# Altium integrated library ST Microcontroller 32-Bit.IntLib: 27 symbols (part 2 of 5)
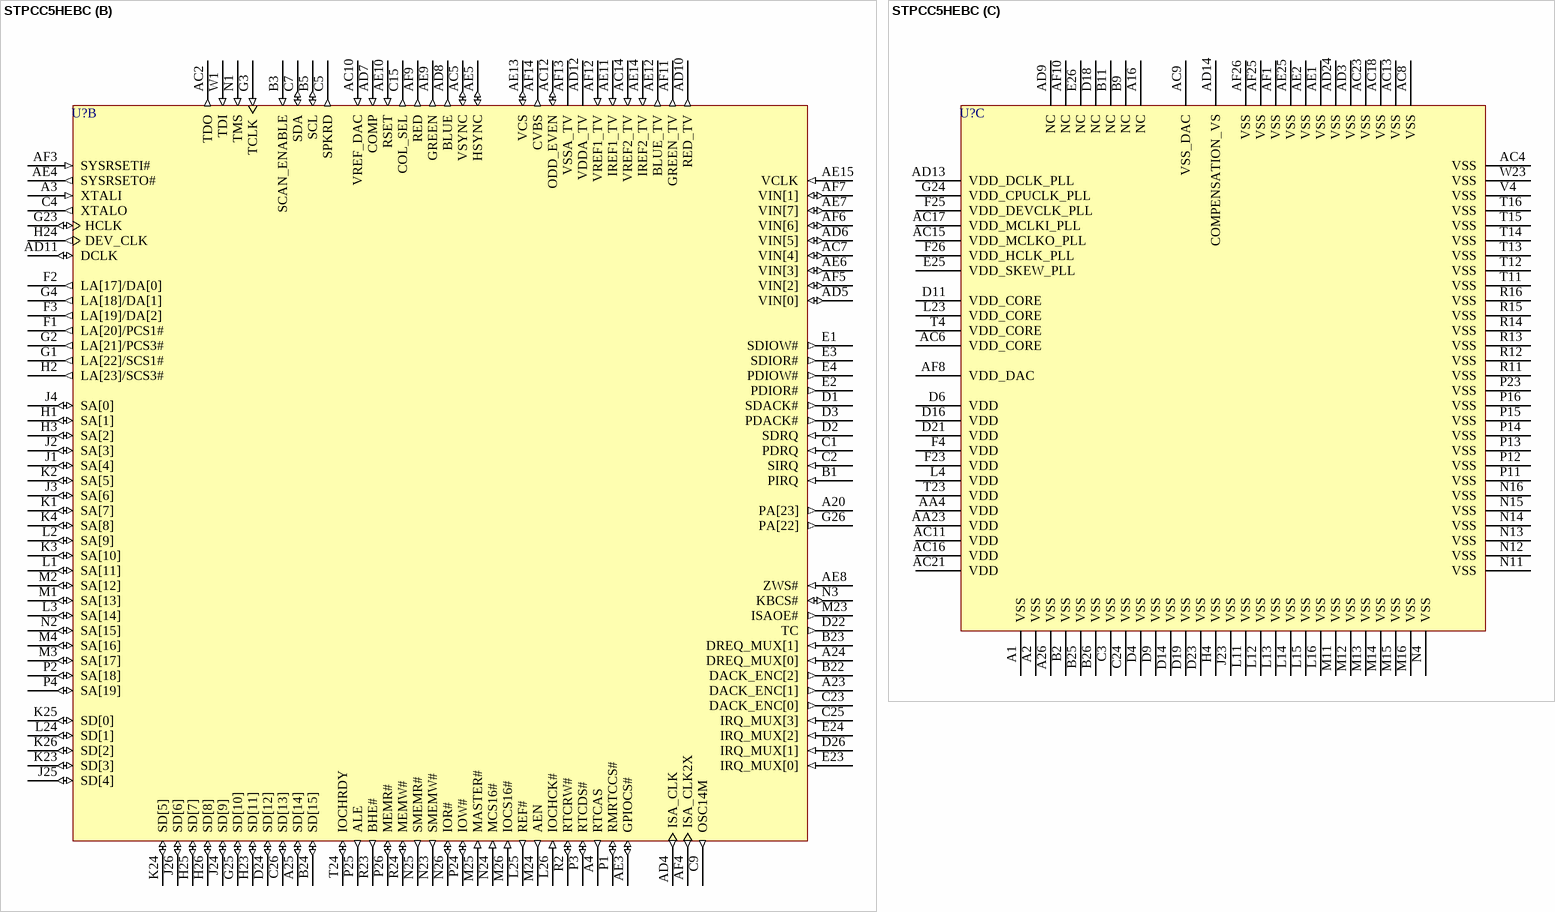
[diagram p64: symbol STPCC5HEBC]

## STPCC5HEBC
designator U?
X86 Core PC Compatible Information Appliance System-on-Chip, 133 MHz Core Speed, 388-Pin PBGA, Commercial; Note: The VDD_xxx_PLL pins and the VDD_CORE pins must be connected to the 2.5V power supply.; Note: They must not be connected to the 3.3 V supply.; Published: 26-May-2004; DatasheetDocument: Release 1.5, 29-Jan-2002; PackageDocument: Oct-2000; PackageReference: PBGA388; Publisher: Altium Limited
footprint PBGA388 (BGA, Plastic; 388 Balls; Body 35 x 35 mm; Pitch 1.27 mm)
part A pins: A5 PCI_INT#[0] (in), A6 LOCK# (in), A7 STOP# (io), A8 FRAME# (io), A9 CBE[2] (io), A10 AD[31] (io), A11 AD[27] (io), A12 AD[25] (io), A13 AD[21] (io), A14 AD[18] (io), A15 AD[14] (io), A17 AD[9] (io), A18 AD[6] (io), A19 AD[3] (io), A21 PCI_REQ#[2] (in), A22 PCI_GNT#[1] (out), AA1 MD[20] (io), AA2 MD[18] (io), AA3 MD[24] (io), AA24 MD[44] (io), AA25 MD[42] (io), AA26 MD[45] (io), AB1 MD[23] (io), AB2 MD[22] (io), AB3 MD[27] (io), AB4 MD[25] (io), AB23 MCLKO (out), AB24 MD[40] (io), AB25 MD[39] (io), AB26 MD[41] (io), AC1 MD[26] (io), AC3 MD[29] (io), AC19 MA[11]/BA[0] (out), AC20 CAS#[1] (out), AC22 MWE# (out), AC24 MD[37] (io), AC25 MD[36] (io), AC26 MD[38] (io), AD1 MD[30] (io), AD2 MD[28] (io), AD15 MA[1] (out), AD16 MA[4] (out), AD17 MA[7] (out), AD18 DQM#[7] (out), AD19 DQM#[1] (out), AD20 DQM#[3] (out), AD21 CS#[1] (out), AD22 RAS#[1] (out), AD23 CS#[3]/MA[12]/BA[1] (out), AD25 MD[34] (io), AD26 MD[35] (io), AE16 MA[0] (out), AE17 MA[3] (out), AE18 MA[6] (out), AE19 MA[9] (out), AE20 MA[10] (out), AE21 CAS#[0] (out), AE22 DQM#[4] (out), AE23 DQM#[5] (out), AE24 CS#[2]/MA[11] (out), AE26 MD[33] (io), AF2 MD[31] (io), AF15 MCLKI (in), AF16 MA[2] (out), AF17 MA[5] (out), AF18 MA[8] (out), AF19 DQM#[6] (out), AF20 DQM#[0] (out), AF21 DQM#[2] (out), AF22 CS#[0] (out), AF23 RAS#[0] (out), AF24 MD[32] (io), B4 PCI_INT#[2] (in), B6 PAR (io), B7 TRDY# (io), B8 CBE[3] (io), B10 AD[29] (io), B12 AD[23] (io), B13 AD[19] (io), B14 AD[16] (io), B15 AD[13] (io), B16 AD[11] (io), B17 AD[7] (io), B18 AD[5] (io), B19 AD[2] (io), B20 AD[0] (io), B21 PCI_GNT#[2] (out), C6 PCI_INT#[1] (in), C8 DEVSEL# (io), C10 CBE[1] (io), C11 AD[30] (io), C12 AD[26] (io), C13 AD[24] (io), C14 AD[22] (io), C16 AD[15] (io), C17 AD[12] (io), C18 AD[8] (io), C19 AD[4] (io), C20 AD[1] (io), C21 PCI_REQ#[1] (in), C22 PCI_GNT#[0] (out), D5 PCI_INT#[3] (in), D7 SERR# (out), D8 IRDY# (io), D10 CBE[0] (io), D12 AD[28] (io), D13 AD[20] (io), D15 AD[17] (io), D17 AD[10] (io), D20 PCI_REQ#[0] (in), D25 PCI_CLKO (out), F24 PCI_CLKI (in), R1 MD[0] (io), R3 MD[2] (io), R4 MD[4] (io), R25 MD[62] (io), R26 MD[63] (io), T1 MD[3] (io), T2 MD[1] (io), T3 MD[6] (io), T25 MD[59] (io), T26 MD[61] (io), U1 MD[7] (io), U2 MD[5] (io), U3 MD[10] (io), U4 MD[8] (io), U23 MD[58] (io), U24 MD[60] (io), U25 MD[55] (io), U26 MD[57] (io), V1 MD[11] (io), V2 MD[9] (io), V3 MD[13] (io), V23 MD[50] (io), V24 MD[56] (io), V25 MD[53] (io), V26 MD[54] (io), W2 MD[12] (io), W3 MD[17] (io), W4 MD[15] (io), W24 MD[52] (io), W25 MD[49] (io), W26 MD[51] (io), Y1 MD[16] (io), Y2 MD[14] (io), Y3 MD[21] (io), Y4 MD[19] (io), Y23 MD[43] (io), Y24 MD[48] (io), Y25 MD[46] (io), Y26 MD[47] (io)
part B pins: A3 XTALI (in), A4 RTCAS (out), A20 PA[23] (out), A23 DACK_ENC[1] (out), A24 DREQ_MUX[0] (in), A25 SD[14] (io), AC2 TDO (out), AC5 VSYNC (io), AC7 VIN[4] (io), AC10 VREF_DAC (in), AC12 ODD_EVEN (io), AC14 VREF2_TV (in), AD4 ISA_CLK (out), AD5 VIN[0] (io), AD6 VIN[5] (io), AD7 COMP (in), AD8 BLUE (out), AD10 RED_TV (out), AD11 DCLK (io), AD12 VDDA_TV (power), AE3 GPIOCS# (io), AE4 SYSRSETO# (out), AE5 HSYNC (io), AE6 VIN[3] (io), AE7 VIN[7] (io), AE8 ZWS# (in), AE9 GREEN (out), AE10 RSET (in), AE11 IREF1_TV (in), AE12 BLUE_TV (out), AE13 VCS (io), AE14 IREF2_TV (in), AE15 VCLK (in), AF3 SYSRSETI# (in), AF4 ISA_CLK2X (out), AF5 VIN[2] (io), AF6 VIN[6] (io), AF7 VIN[1] (io), AF9 RED (out), AF11 GREEN_TV (out), AF12 VREF1_TV (in), AF13 VSSA_TV (power), AF14 CVBS (out), B1 PIRQ (in), B3 SCAN_ENABLE (in), B5 SCL (io), B22 DACK_ENC[2] (out), B23 DREQ_MUX[1] (in), B24 SD[15] (io), C1 PDRQ (in), C2 SIRQ (in), C4 XTALO (out), C5 SPKRD (out), C7 SDA (io), C9 OSC14M (out), C15 COL_SEL (out), C23 DACK_ENC[0] (out), C25 IRQ_MUX[3] (in), C26 SD[13] (io), D1 SDACK# (out), D2 SDRQ (in), D3 PDACK# (out), D22 TC (out), D24 SD[12] (io), D26 IRQ_MUX[1] (in), E1 SDIOW# (out), E2 PDIOR# (out), E3 SDIOR# (out), E4 PDIOW# (out), E23 IRQ_MUX[0] (in), E24 IRQ_MUX[2] (in), F1 LA[20]/PCS1# (out), F2 LA[17]/DA[0] (out), F3 LA[19]/DA[2] (out), G1 LA[22]/SCS1# (out), G2 LA[21]/PCS3# (out), G3 TCLK (in), G4 LA[18]/DA[1] (out), G23 HCLK (io), G25 SD[10] (io), G26 PA[22] (out), H1 SA[1] (io), H2 LA[23]/SCS3# (out), H3 SA[2] (io), H23 SD[11] (io), H24 DEV_CLK (out), H25 SD[7] (io), H26 SD[8] (io), J1 SA[4] (io), J2 SA[3] (io), J3 SA[6] (io), J4 SA[0] (io), J24 SD[9] (io), J25 SD[4] (io), J26 SD[6] (io), K1 SA[7] (io), K2 SA[5] (io), K3 SA[10] (io), K4 SA[8] (io), K23 SD[3] (io), K24 SD[5] (io), K25 SD[0] (io), K26 SD[2] (io), L1 SA[11] (io), L2 SA[9] (io), L3 SA[14] (io), L24 SD[1] (io), L25 REF# (out), L26 IOCHCK# (in), M1 SA[13] (io), M2 SA[12] (io), M3 SA[17] (io), M4 SA[16] (io), M23 ISAOE# (out), M24 AEN (out), M25 MASTER# (in), M26 IOCS16# (in), N1 TMS (in), N2 SA[15] (io), N3 KBCS# (io), N23 SMEMW# (out), N24 MCS16# (in), N25 SMEMR# (out), N26 IOR# (io), P1 RMRTCCS# (io), P2 SA[18] (io), P3 RTCDS# (io), P4 SA[19] (io), P24 IOW# (io), P25 ALE (out), P26 MEMR# (io), R2 RTCRW# (io), R23 BHE# (out), R24 MEMW# (io), T24 IOCHRDY (io), W1 TDI (in)
part C pins: A1 VSS (power), A2 VSS (power), A16 NC, A26 VSS (power), AA4 VDD (power), AA23 VDD (power), AC4 VSS (power), AC6 VDD_CORE (power), AC8 VSS (power), AC9 VSS_DAC (power), AC11 VDD (power), AC13 VSS (power), AC15 VDD_MCLKO_PLL (power), AC16 VDD (power), AC17 VDD_MCLKI_PLL (power), AC18 VSS (power), AC21 VDD (power), AC23 VSS (power), AD3 VSS (power), AD9 NC, AD13 VDD_DCLK_PLL (power), AD14 COMPENSATION_VS (power), AD24 VSS (power), AE1 VSS (power), AE2 VSS (power), AE25 VSS (power), AF1 VSS (power), AF8 VDD_DAC (power), AF10 NC, AF25 VSS (power), AF26 VSS (power), B2 VSS (power), B9 NC, B11 NC, B25 VSS (power), B26 VSS (power), C3 VSS (power), C24 VSS (power), D4 VSS (power), D6 VDD (power), D9 VSS (power), D11 VDD_CORE (power), D14 VSS (power), D16 VDD (power), D18 NC, D19 VSS (power), D21 VDD (power), D23 VSS (power), E25 VDD_SKEW_PLL (power), E26 NC, F4 VDD (power), F23 VDD (power), F25 VDD_DEVCLK_PLL (power), F26 VDD_HCLK_PLL (power), G24 VDD_CPUCLK_PLL (power), H4 VSS (power), J23 VSS (power), L4 VDD (power), L11 VSS (power), L12 VSS (power), L13 VSS (power), L14 VSS (power), L15 VSS (power), L16 VSS (power), L23 VDD_CORE (power), M11 VSS (power), M12 VSS (power), M13 VSS (power), M14 VSS (power), M15 VSS (power), M16 VSS (power), N4 VSS (power), N11 VSS (power), N12 VSS (power), N13 VSS (power), N14 VSS (power), N15 VSS (power), N16 VSS (power), P11 VSS (power), P12 VSS (power), P13 VSS (power), P14 VSS (power), P15 VSS (power), P16 VSS (power), P23 VSS (power), R11 VSS (power), R12 VSS (power), R13 VSS (power), R14 VSS (power), R15 VSS (power), R16 VSS (power), T4 VDD_CORE (power), T11 VSS (power), T12 VSS (power), T13 VSS (power), T14 VSS (power), T15 VSS (power), T16 VSS (power), T23 VDD (power), V4 VSS (power), W23 VSS (power)

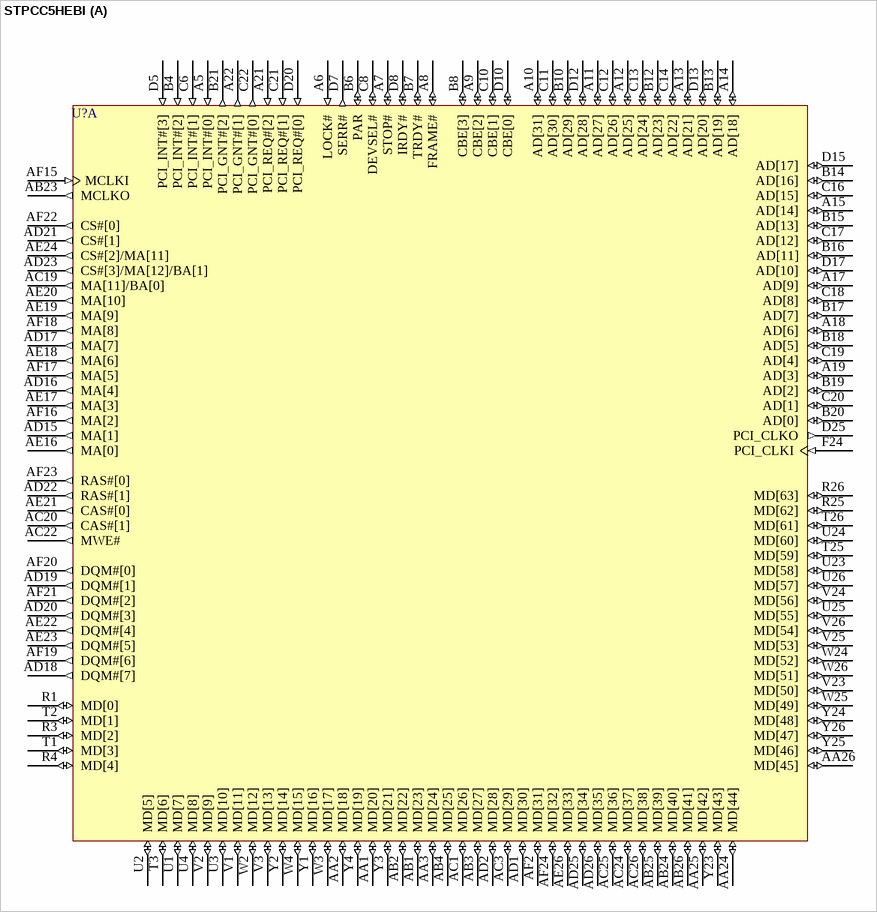
[diagram p14: symbol STPCC5HEBI]

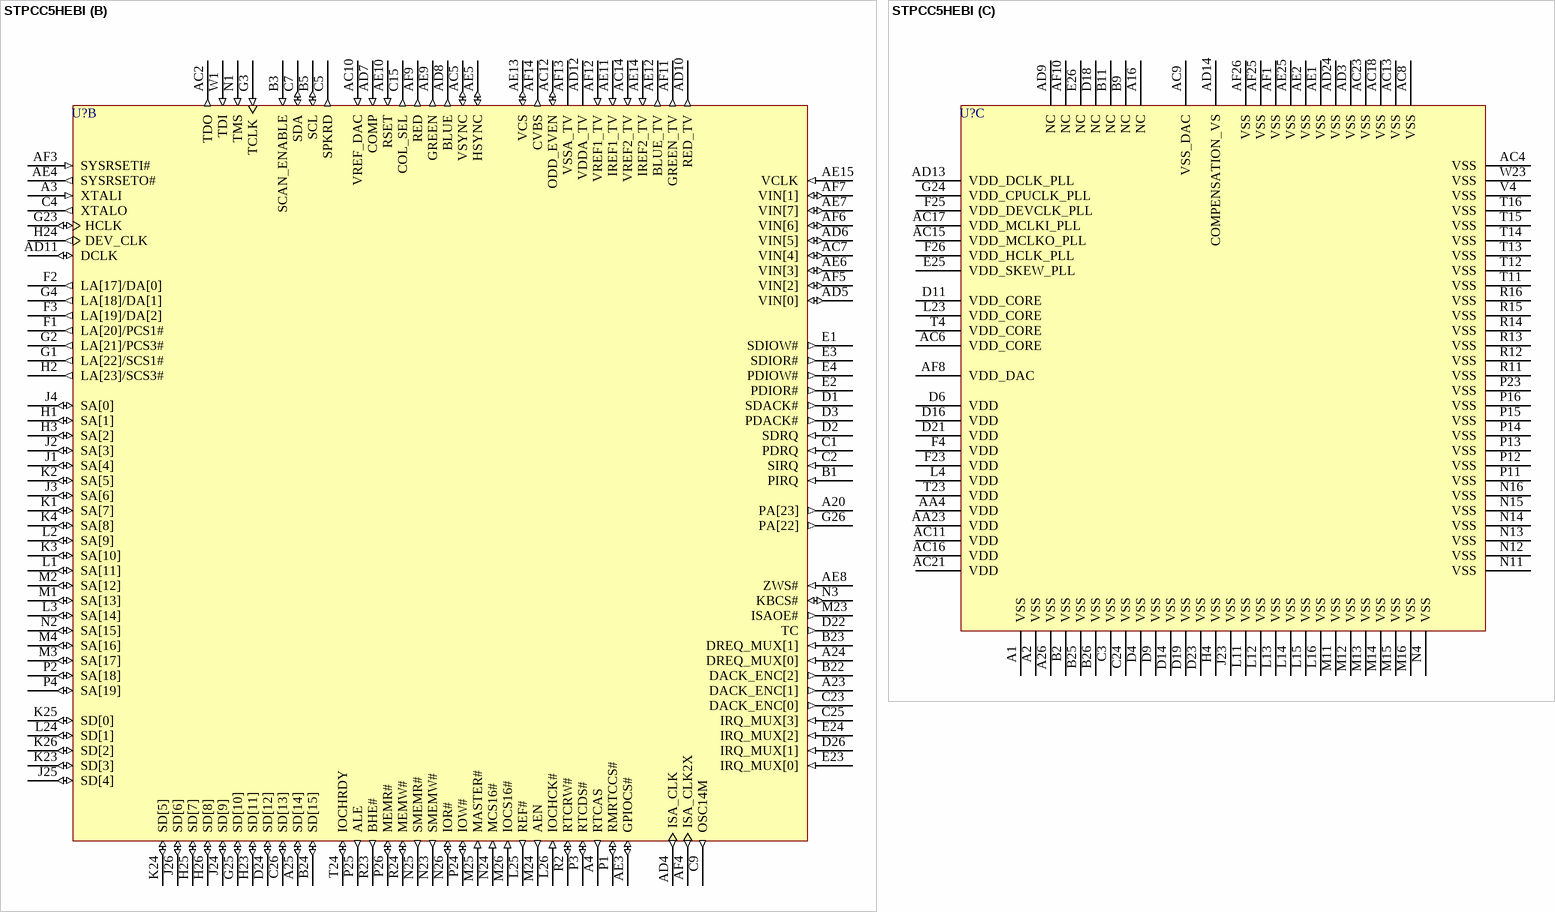
[diagram p15: symbol STPCC5HEBI]

## STPCC5HEBI
designator U?
X86 Core PC Compatible Information Appliance System-on-Chip, 133 MHz Core Speed, 388-Pin PBGA, Industrial; Note: The VDD_xxx_PLL pins and the VDD_CORE pins must be connected to the 2.5V power supply.; Note: They must not be connected to the 3.3 V supply.; Published: 26-May-2004; DatasheetDocument: Release 1.5, 29-Jan-2002; PackageDocument: Oct-2000; PackageReference: PBGA388; Publisher: Altium Limited
footprint PBGA388 (BGA, Plastic; 388 Balls; Body 35 x 35 mm; Pitch 1.27 mm)
part A pins: A5 PCI_INT#[0] (in), A6 LOCK# (in), A7 STOP# (io), A8 FRAME# (io), A9 CBE[2] (io), A10 AD[31] (io), A11 AD[27] (io), A12 AD[25] (io), A13 AD[21] (io), A14 AD[18] (io), A15 AD[14] (io), A17 AD[9] (io), A18 AD[6] (io), A19 AD[3] (io), A21 PCI_REQ#[2] (in), A22 PCI_GNT#[1] (out), AA1 MD[20] (io), AA2 MD[18] (io), AA3 MD[24] (io), AA24 MD[44] (io), AA25 MD[42] (io), AA26 MD[45] (io), AB1 MD[23] (io), AB2 MD[22] (io), AB3 MD[27] (io), AB4 MD[25] (io), AB23 MCLKO (out), AB24 MD[40] (io), AB25 MD[39] (io), AB26 MD[41] (io), AC1 MD[26] (io), AC3 MD[29] (io), AC19 MA[11]/BA[0] (out), AC20 CAS#[1] (out), AC22 MWE# (out), AC24 MD[37] (io), AC25 MD[36] (io), AC26 MD[38] (io), AD1 MD[30] (io), AD2 MD[28] (io), AD15 MA[1] (out), AD16 MA[4] (out), AD17 MA[7] (out), AD18 DQM#[7] (out), AD19 DQM#[1] (out), AD20 DQM#[3] (out), AD21 CS#[1] (out), AD22 RAS#[1] (out), AD23 CS#[3]/MA[12]/BA[1] (out), AD25 MD[34] (io), AD26 MD[35] (io), AE16 MA[0] (out), AE17 MA[3] (out), AE18 MA[6] (out), AE19 MA[9] (out), AE20 MA[10] (out), AE21 CAS#[0] (out), AE22 DQM#[4] (out), AE23 DQM#[5] (out), AE24 CS#[2]/MA[11] (out), AE26 MD[33] (io), AF2 MD[31] (io), AF15 MCLKI (in), AF16 MA[2] (out), AF17 MA[5] (out), AF18 MA[8] (out), AF19 DQM#[6] (out), AF20 DQM#[0] (out), AF21 DQM#[2] (out), AF22 CS#[0] (out), AF23 RAS#[0] (out), AF24 MD[32] (io), B4 PCI_INT#[2] (in), B6 PAR (io), B7 TRDY# (io), B8 CBE[3] (io), B10 AD[29] (io), B12 AD[23] (io), B13 AD[19] (io), B14 AD[16] (io), B15 AD[13] (io), B16 AD[11] (io), B17 AD[7] (io), B18 AD[5] (io), B19 AD[2] (io), B20 AD[0] (io), B21 PCI_GNT#[2] (out), C6 PCI_INT#[1] (in), C8 DEVSEL# (io), C10 CBE[1] (io), C11 AD[30] (io), C12 AD[26] (io), C13 AD[24] (io), C14 AD[22] (io), C16 AD[15] (io), C17 AD[12] (io), C18 AD[8] (io), C19 AD[4] (io), C20 AD[1] (io), C21 PCI_REQ#[1] (in), C22 PCI_GNT#[0] (out), D5 PCI_INT#[3] (in), D7 SERR# (out), D8 IRDY# (io), D10 CBE[0] (io), D12 AD[28] (io), D13 AD[20] (io), D15 AD[17] (io), D17 AD[10] (io), D20 PCI_REQ#[0] (in), D25 PCI_CLKO (out), F24 PCI_CLKI (in), R1 MD[0] (io), R3 MD[2] (io), R4 MD[4] (io), R25 MD[62] (io), R26 MD[63] (io), T1 MD[3] (io), T2 MD[1] (io), T3 MD[6] (io), T25 MD[59] (io), T26 MD[61] (io), U1 MD[7] (io), U2 MD[5] (io), U3 MD[10] (io), U4 MD[8] (io), U23 MD[58] (io), U24 MD[60] (io), U25 MD[55] (io), U26 MD[57] (io), V1 MD[11] (io), V2 MD[9] (io), V3 MD[13] (io), V23 MD[50] (io), V24 MD[56] (io), V25 MD[53] (io), V26 MD[54] (io), W2 MD[12] (io), W3 MD[17] (io), W4 MD[15] (io), W24 MD[52] (io), W25 MD[49] (io), W26 MD[51] (io), Y1 MD[16] (io), Y2 MD[14] (io), Y3 MD[21] (io), Y4 MD[19] (io), Y23 MD[43] (io), Y24 MD[48] (io), Y25 MD[46] (io), Y26 MD[47] (io)
part B pins: A3 XTALI (in), A4 RTCAS (out), A20 PA[23] (out), A23 DACK_ENC[1] (out), A24 DREQ_MUX[0] (in), A25 SD[14] (io), AC2 TDO (out), AC5 VSYNC (io), AC7 VIN[4] (io), AC10 VREF_DAC (in), AC12 ODD_EVEN (io), AC14 VREF2_TV (in), AD4 ISA_CLK (out), AD5 VIN[0] (io), AD6 VIN[5] (io), AD7 COMP (in), AD8 BLUE (out), AD10 RED_TV (out), AD11 DCLK (io), AD12 VDDA_TV (power), AE3 GPIOCS# (io), AE4 SYSRSETO# (out), AE5 HSYNC (io), AE6 VIN[3] (io), AE7 VIN[7] (io), AE8 ZWS# (in), AE9 GREEN (out), AE10 RSET (in), AE11 IREF1_TV (in), AE12 BLUE_TV (out), AE13 VCS (io), AE14 IREF2_TV (in), AE15 VCLK (in), AF3 SYSRSETI# (in), AF4 ISA_CLK2X (out), AF5 VIN[2] (io), AF6 VIN[6] (io), AF7 VIN[1] (io), AF9 RED (out), AF11 GREEN_TV (out), AF12 VREF1_TV (in), AF13 VSSA_TV (power), AF14 CVBS (out), B1 PIRQ (in), B3 SCAN_ENABLE (in), B5 SCL (io), B22 DACK_ENC[2] (out), B23 DREQ_MUX[1] (in), B24 SD[15] (io), C1 PDRQ (in), C2 SIRQ (in), C4 XTALO (out), C5 SPKRD (out), C7 SDA (io), C9 OSC14M (out), C15 COL_SEL (out), C23 DACK_ENC[0] (out), C25 IRQ_MUX[3] (in), C26 SD[13] (io), D1 SDACK# (out), D2 SDRQ (in), D3 PDACK# (out), D22 TC (out), D24 SD[12] (io), D26 IRQ_MUX[1] (in), E1 SDIOW# (out), E2 PDIOR# (out), E3 SDIOR# (out), E4 PDIOW# (out), E23 IRQ_MUX[0] (in), E24 IRQ_MUX[2] (in), F1 LA[20]/PCS1# (out), F2 LA[17]/DA[0] (out), F3 LA[19]/DA[2] (out), G1 LA[22]/SCS1# (out), G2 LA[21]/PCS3# (out), G3 TCLK (in), G4 LA[18]/DA[1] (out), G23 HCLK (io), G25 SD[10] (io), G26 PA[22] (out), H1 SA[1] (io), H2 LA[23]/SCS3# (out), H3 SA[2] (io), H23 SD[11] (io), H24 DEV_CLK (out), H25 SD[7] (io), H26 SD[8] (io), J1 SA[4] (io), J2 SA[3] (io), J3 SA[6] (io), J4 SA[0] (io), J24 SD[9] (io), J25 SD[4] (io), J26 SD[6] (io), K1 SA[7] (io), K2 SA[5] (io), K3 SA[10] (io), K4 SA[8] (io), K23 SD[3] (io), K24 SD[5] (io), K25 SD[0] (io), K26 SD[2] (io), L1 SA[11] (io), L2 SA[9] (io), L3 SA[14] (io), L24 SD[1] (io), L25 REF# (out), L26 IOCHCK# (in), M1 SA[13] (io), M2 SA[12] (io), M3 SA[17] (io), M4 SA[16] (io), M23 ISAOE# (out), M24 AEN (out), M25 MASTER# (in), M26 IOCS16# (in), N1 TMS (in), N2 SA[15] (io), N3 KBCS# (io), N23 SMEMW# (out), N24 MCS16# (in), N25 SMEMR# (out), N26 IOR# (io), P1 RMRTCCS# (io), P2 SA[18] (io), P3 RTCDS# (io), P4 SA[19] (io), P24 IOW# (io), P25 ALE (out), P26 MEMR# (io), R2 RTCRW# (io), R23 BHE# (out), R24 MEMW# (io), T24 IOCHRDY (io), W1 TDI (in)
part C pins: A1 VSS (power), A2 VSS (power), A16 NC, A26 VSS (power), AA4 VDD (power), AA23 VDD (power), AC4 VSS (power), AC6 VDD_CORE (power), AC8 VSS (power), AC9 VSS_DAC (power), AC11 VDD (power), AC13 VSS (power), AC15 VDD_MCLKO_PLL (power), AC16 VDD (power), AC17 VDD_MCLKI_PLL (power), AC18 VSS (power), AC21 VDD (power), AC23 VSS (power), AD3 VSS (power), AD9 NC, AD13 VDD_DCLK_PLL (power), AD14 COMPENSATION_VS (power), AD24 VSS (power), AE1 VSS (power), AE2 VSS (power), AE25 VSS (power), AF1 VSS (power), AF8 VDD_DAC (power), AF10 NC, AF25 VSS (power), AF26 VSS (power), B2 VSS (power), B9 NC, B11 NC, B25 VSS (power), B26 VSS (power), C3 VSS (power), C24 VSS (power), D4 VSS (power), D6 VDD (power), D9 VSS (power), D11 VDD_CORE (power), D14 VSS (power), D16 VDD (power), D18 NC, D19 VSS (power), D21 VDD (power), D23 VSS (power), E25 VDD_SKEW_PLL (power), E26 NC, F4 VDD (power), F23 VDD (power), F25 VDD_DEVCLK_PLL (power), F26 VDD_HCLK_PLL (power), G24 VDD_CPUCLK_PLL (power), H4 VSS (power), J23 VSS (power), L4 VDD (power), L11 VSS (power), L12 VSS (power), L13 VSS (power), L14 VSS (power), L15 VSS (power), L16 VSS (power), L23 VDD_CORE (power), M11 VSS (power), M12 VSS (power), M13 VSS (power), M14 VSS (power), M15 VSS (power), M16 VSS (power), N4 VSS (power), N11 VSS (power), N12 VSS (power), N13 VSS (power), N14 VSS (power), N15 VSS (power), N16 VSS (power), P11 VSS (power), P12 VSS (power), P13 VSS (power), P14 VSS (power), P15 VSS (power), P16 VSS (power), P23 VSS (power), R11 VSS (power), R12 VSS (power), R13 VSS (power), R14 VSS (power), R15 VSS (power), R16 VSS (power), T4 VDD_CORE (power), T11 VSS (power), T12 VSS (power), T13 VSS (power), T14 VSS (power), T15 VSS (power), T16 VSS (power), T23 VDD (power), V4 VSS (power), W23 VSS (power)

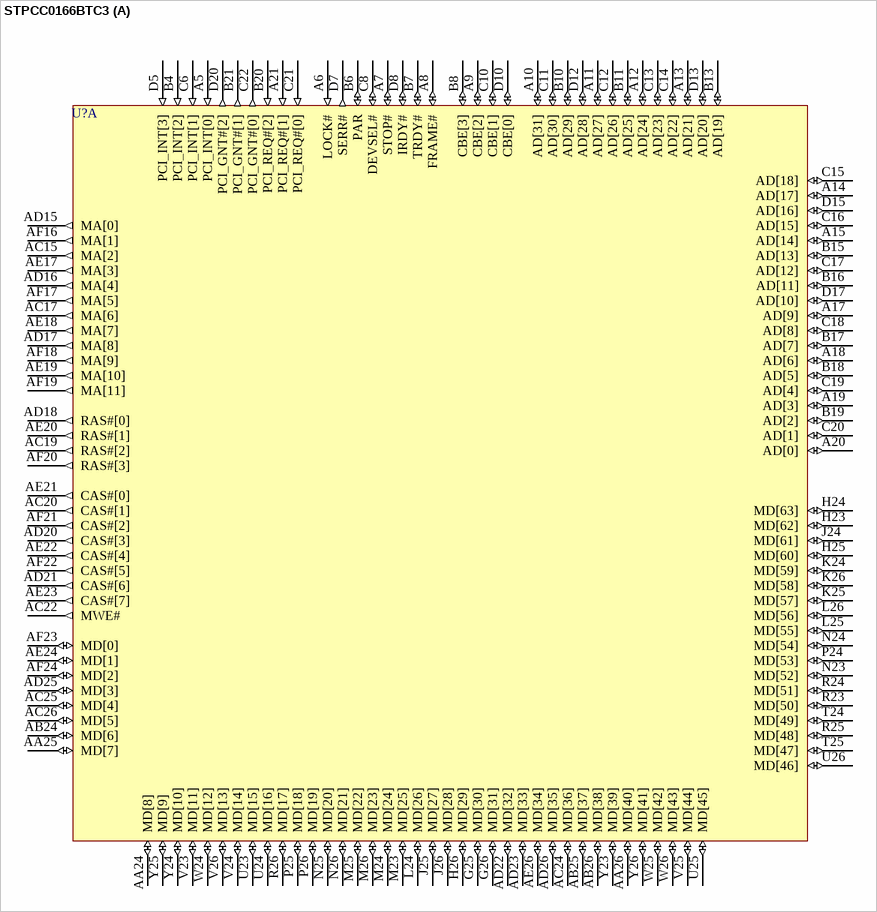
[diagram p16: symbol STPCC0166BTC3]

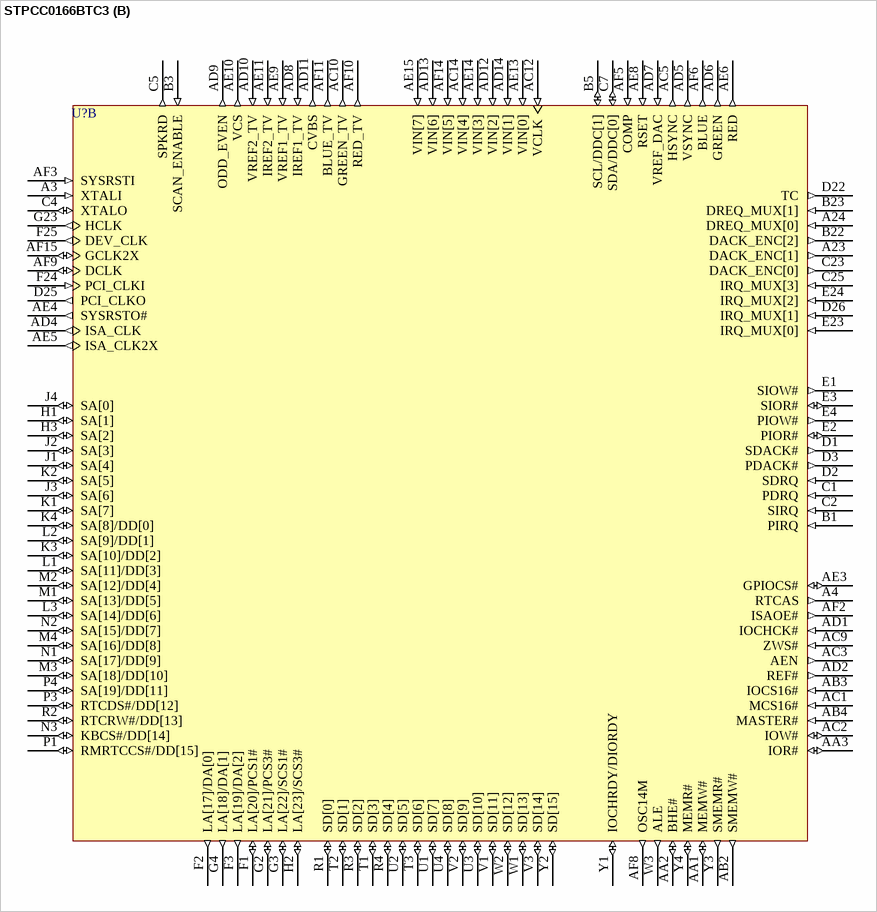
[diagram p17: symbol STPCC0166BTC3]

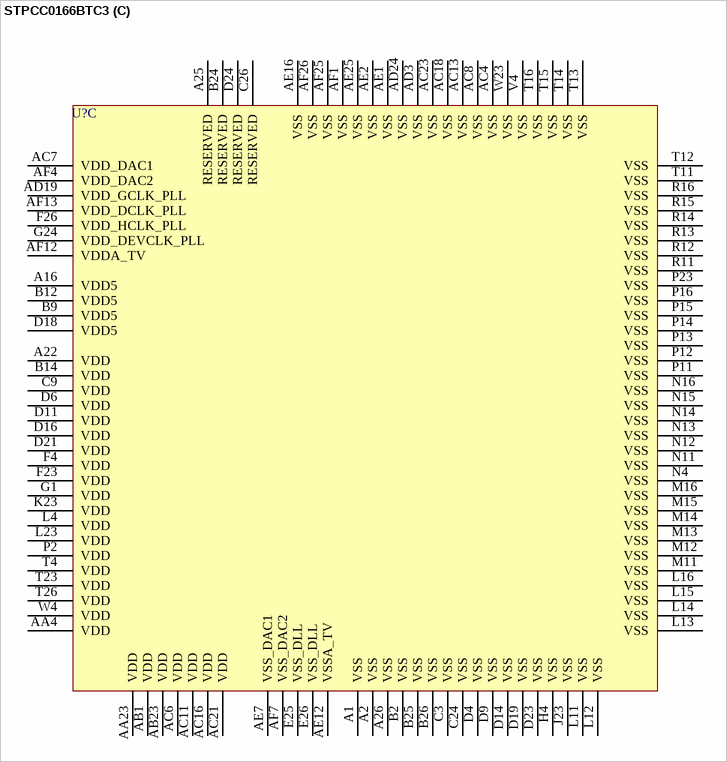
[diagram p18: symbol STPCC0166BTC3]

## STPCC0166BTC3
designator U?
STPCC01 PC Compatible Embedded Microprocessor, 66 MHz Core Speed, 388-Pin PBGA, Commercial; Published: 26-May-2004; DatasheetDocument: Issue 2.4, 8-Nov-2001; PackageDocument: Oct-2000; PackageReference: PBGA388; Publisher: Altium Limited
footprint PBGA388 (BGA, Plastic; 388 Balls; Body 35 x 35 mm; Pitch 1.27 mm)
part A pins: A5 PCI_INT[0] (in), A6 LOCK# (in), A7 STOP# (io), A8 FRAME# (io), A9 CBE[2] (io), A10 AD[31] (io), A11 AD[27] (io), A12 AD[24] (io), A13 AD[21] (io), A14 AD[17] (io), A15 AD[14] (io), A17 AD[9] (io), A18 AD[6] (io), A19 AD[3] (io), A20 AD[0] (io), A21 PCI_REQ#[1] (in), AA24 MD[8] (io), AA25 MD[7] (io), AA26 MD[40] (io), AB24 MD[6] (io), AB25 MD[37] (io), AB26 MD[38] (io), AC15 MA[2] (out), AC17 MA[6] (out), AC19 RAS#[2] (out), AC20 CAS#[1] (out), AC22 MWE# (out), AC24 MD[36] (io), AC25 MD[4] (io), AC26 MD[5] (io), AD15 MA[0] (out), AD16 MA[4] (out), AD17 MA[8] (out), AD18 RAS#[0] (out), AD20 CAS#[3] (out), AD21 CAS#[6] (out), AD22 MD[32] (io), AD23 MD[33] (io), AD25 MD[3] (io), AD26 MD[35] (io), AE17 MA[3] (out), AE18 MA[7] (out), AE19 MA[10] (out), AE20 RAS#[1] (out), AE21 CAS#[0] (out), AE22 CAS#[4] (out), AE23 CAS#[7] (out), AE24 MD[1] (io), AE26 MD[34] (io), AF16 MA[1] (out), AF17 MA[5] (out), AF18 MA[9] (out), AF19 MA[11] (out), AF20 RAS#[3] (out), AF21 CAS#[2] (out), AF22 CAS#[5] (out), AF23 MD[0] (io), AF24 MD[2] (io), B4 PCI_INT[2] (in), B6 PAR (io), B7 TRDY# (io), B8 CBE[3] (io), B10 AD[29] (io), B11 AD[25] (io), B13 AD[19] (io), B15 AD[13] (io), B16 AD[11] (io), B17 AD[7] (io), B18 AD[5] (io), B19 AD[2] (io), B20 PCI_REQ#[2] (in), B21 PCI_GNT#[1] (out), C6 PCI_INT[1] (in), C8 DEVSEL# (io), C10 CBE[1] (io), C11 AD[30] (io), C12 AD[26] (io), C13 AD[23] (io), C14 AD[22] (io), C15 AD[18] (io), C16 AD[15] (io), C17 AD[12] (io), C18 AD[8] (io), C19 AD[4] (io), C20 AD[1] (io), C21 PCI_REQ#[0] (in), C22 PCI_GNT#[0] (out), D5 PCI_INT[3] (in), D7 SERR# (out), D8 IRDY# (io), D10 CBE[0] (io), D12 AD[28] (io), D13 AD[20] (io), D15 AD[16] (io), D17 AD[10] (io), D20 PCI_GNT#[2] (out), G25 MD[30] (io), G26 MD[31] (io), H23 MD[62] (io), H24 MD[63] (io), H25 MD[60] (io), H26 MD[29] (io), J24 MD[61] (io), J25 MD[27] (io), J26 MD[28] (io), K24 MD[59] (io), K25 MD[57] (io), K26 MD[58] (io), L24 MD[26] (io), L25 MD[55] (io), L26 MD[56] (io), M23 MD[25] (io), M24 MD[24] (io), M25 MD[22] (io), M26 MD[23] (io), N23 MD[52] (io), N24 MD[54] (io), N25 MD[20] (io), N26 MD[21] (io), P24 MD[53] (io), P25 MD[18] (io), P26 MD[19] (io), R23 MD[50] (io), R24 MD[51] (io), R25 MD[48] (io), R26 MD[17] (io), T24 MD[49] (io), T25 MD[47] (io), U23 MD[15] (io), U24 MD[16] (io), U25 MD[45] (io), U26 MD[46] (io), V23 MD[11] (io), V24 MD[14] (io), V25 MD[44] (io), V26 MD[13] (io), W24 MD[12] (io), W25 MD[42] (io), W26 MD[43] (io), Y23 MD[39] (io), Y24 MD[10] (io), Y25 MD[9] (io), Y26 MD[41] (io)
part B pins: A3 XTALI (in), A4 RTCAS (out), A23 DACK_ENC[1] (out), A24 DREQ_MUX[0] (in), AA1 MEMW# (io), AA2 BHE# (io), AA3 IOR# (io), AB2 SMEMW# (out), AB3 IOCS16# (in), AB4 MASTER# (in), AC1 MCS16# (in), AC2 IOW# (io), AC3 AEN (out), AC5 HSYNC (out), AC9 ZWS# (in), AC10 GREEN_TV (out), AC12 VCLK (in), AC14 VIN[4] (in), AD1 IOCHCK# (in), AD2 REF# (out), AD4 ISA_CLK (out), AD5 VSYNC (out), AD6 GREEN (out), AD7 VREF_DAC (in), AD8 IREF1_TV (in), AD9 ODD_EVEN (out), AD10 VREF2_TV (in), AD11 CVBS (out), AD12 VIN[2] (in), AD13 VIN[6] (in), AD14 VIN[1] (in), AE3 GPIOCS# (io), AE4 SYSRSTO# (out), AE5 ISA_CLK2X (out), AE6 RED (out), AE8 RSET (in), AE9 VREF1_TV (in), AE10 VCS (out), AE11 IREF2_TV (in), AE13 VIN[0] (in), AE14 VIN[3] (in), AE15 VIN[7] (in), AF2 ISAOE# (out), AF3 SYSRSTI (in), AF5 COMP (in), AF6 BLUE (out), AF8 OSC14M (out), AF9 DCLK (io), AF10 RED_TV (out), AF11 BLUE_TV (out), AF14 VIN[5] (in), AF15 GCLK2X (io), B1 PIRQ (in), B3 SCAN_ENABLE (in), B5 SCL/DDC[1] (io), B22 DACK_ENC[2] (out), B23 DREQ_MUX[1] (in), C1 PDRQ (in), C2 SIRQ (in), C4 XTALO (io), C5 SPKRD (out), C7 SDA/DDC[0] (io), C23 DACK_ENC[0] (out), C25 IRQ_MUX[3] (in), D1 SDACK# (out), D2 SDRQ (in), D3 PDACK# (out), D22 TC (out), D25 PCI_CLKO (out), D26 IRQ_MUX[1] (in), E1 SIOW# (out), E2 PIOR# (io), E3 SIOR# (io), E4 PIOW# (out), E23 IRQ_MUX[0] (in), E24 IRQ_MUX[2] (in), F1 LA[20]/PCS1# (io), F2 LA[17]/DA[0] (out), F3 LA[19]/DA[2] (out), F24 PCI_CLKI (in), F25 DEV_CLK (out), G2 LA[21]/PCS3# (io), G3 LA[22]/SCS1# (io), G4 LA[18]/DA[1] (out), G23 HCLK (out), H1 SA[1] (io), H2 LA[23]/SCS3# (io), H3 SA[2] (io), J1 SA[4] (io), J2 SA[3] (io), J3 SA[6] (io), J4 SA[0] (io), K1 SA[7] (io), K2 SA[5] (io), K3 SA[10]/DD[2] (io), K4 SA[8]/DD[0] (io), L1 SA[11]/DD[3] (io), L2 SA[9]/DD[1] (io), L3 SA[14]/DD[6] (io), M1 SA[13]/DD[5] (io), M2 SA[12]/DD[4] (io), M3 SA[18]/DD[10] (io), M4 SA[16]/DD[8] (io), N1 SA[17]/DD[9] (io), N2 SA[15]/DD[7] (io), N3 KBCS#/DD[14] (io), P1 RMRTCCS#/DD[15] (io), P3 RTCDS#/DD[12] (io), P4 SA[19]/DD[11] (io), R1 SD[0] (io), R2 RTCRW#/DD[13] (io), R3 SD[2] (io), R4 SD[4] (io), T1 SD[3] (io), T2 SD[1] (io), T3 SD[6] (io), U1 SD[7] (io), U2 SD[5] (io), U3 SD[10] (io), U4 SD[8] (io), V1 SD[11] (io), V2 SD[9] (io), V3 SD[14] (io), W1 SD[13] (io), W2 SD[12] (io), W3 ALE (out), Y1 IOCHRDY/DIORDY (io), Y2 SD[15] (io), Y3 SMEMR# (out), Y4 MEMR# (io)
part C pins: A1 VSS (power), A2 VSS (power), A16 VDD5 (power), A22 VDD (power), A25 RESERVED, A26 VSS (power), AA4 VDD (power), AA23 VDD (power), AB1 VDD (power), AB23 VDD (power), AC4 VSS (power), AC6 VDD (power), AC7 VDD_DAC1 (power), AC8 VSS (power), AC11 VDD (power), AC13 VSS (power), AC16 VDD (power), AC18 VSS (power), AC21 VDD (power), AC23 VSS (power), AD3 VSS (power), AD19 VDD_GCLK_PLL (power), AD24 VSS (power), AE1 VSS (power), AE2 VSS (power), AE7 VSS_DAC1 (power), AE12 VSSA_TV (power), AE16 VSS (power), AE25 VSS (power), AF1 VSS (power), AF4 VDD_DAC2 (power), AF7 VSS_DAC2 (power), AF12 VDDA_TV (power), AF13 VDD_DCLK_PLL (power), AF25 VSS (power), AF26 VSS (power), B2 VSS (power), B9 VDD5 (power), B12 VDD5 (power), B14 VDD (power), B24 RESERVED, B25 VSS (power), B26 VSS (power), C3 VSS (power), C9 VDD (power), C24 VSS (power), C26 RESERVED, D4 VSS (power), D6 VDD (power), D9 VSS (power), D11 VDD (power), D14 VSS (power), D16 VDD (power), D18 VDD5 (power), D19 VSS (power), D21 VDD (power), D23 VSS (power), D24 RESERVED, E25 VSS_DLL (power), E26 VSS_DLL (power), F4 VDD (power), F23 VDD (power), F26 VDD_HCLK_PLL (power), G1 VDD (power), G24 VDD_DEVCLK_PLL (power), H4 VSS (power), J23 VSS (power), K23 VDD (power), L4 VDD (power), L11 VSS (power), L12 VSS (power), L13 VSS (power), L14 VSS (power), L15 VSS (power), L16 VSS (power), L23 VDD (power), M11 VSS (power), M12 VSS (power), M13 VSS (power), M14 VSS (power), M15 VSS (power), M16 VSS (power), N4 VSS (power), N11 VSS (power), N12 VSS (power), N13 VSS (power), N14 VSS (power), N15 VSS (power), N16 VSS (power), P2 VDD (power), P11 VSS (power), P12 VSS (power), P13 VSS (power), P14 VSS (power), P15 VSS (power), P16 VSS (power), P23 VSS (power), R11 VSS (power), R12 VSS (power), R13 VSS (power), R14 VSS (power), R15 VSS (power), R16 VSS (power), T4 VDD (power), T11 VSS (power), T12 VSS (power), T13 VSS (power), T14 VSS (power), T15 VSS (power), T16 VSS (power), T23 VDD (power), T26 VDD (power), V4 VSS (power), W4 VDD (power), W23 VSS (power)

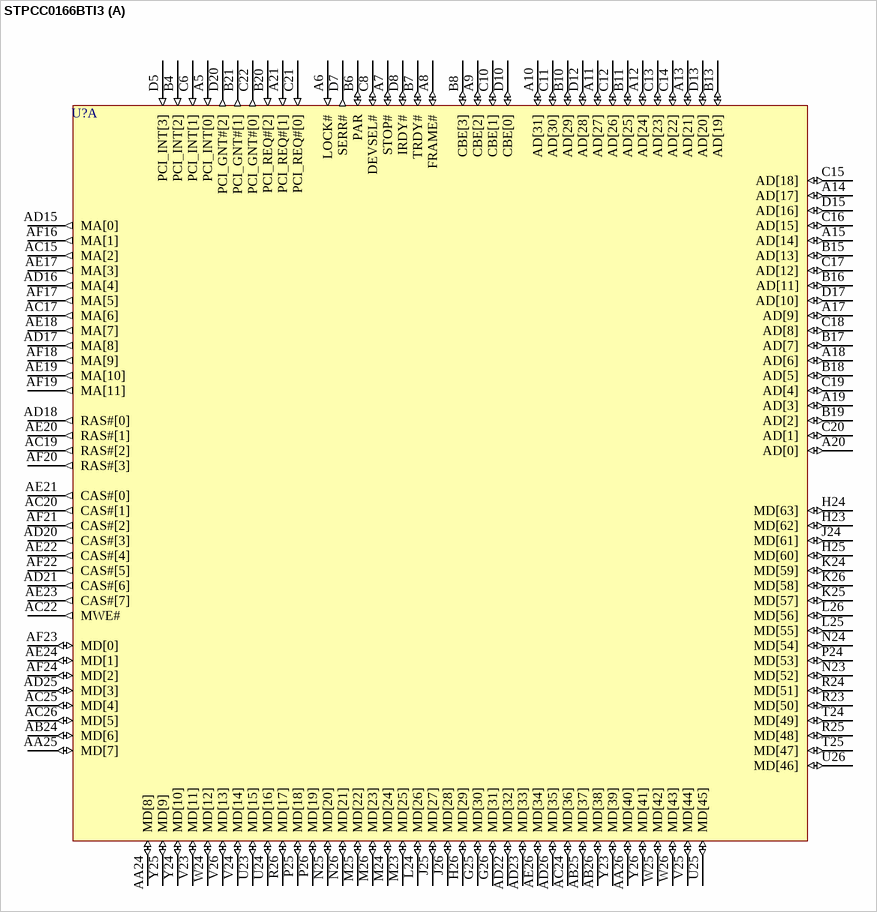
[diagram p19: symbol STPCC0166BTI3]

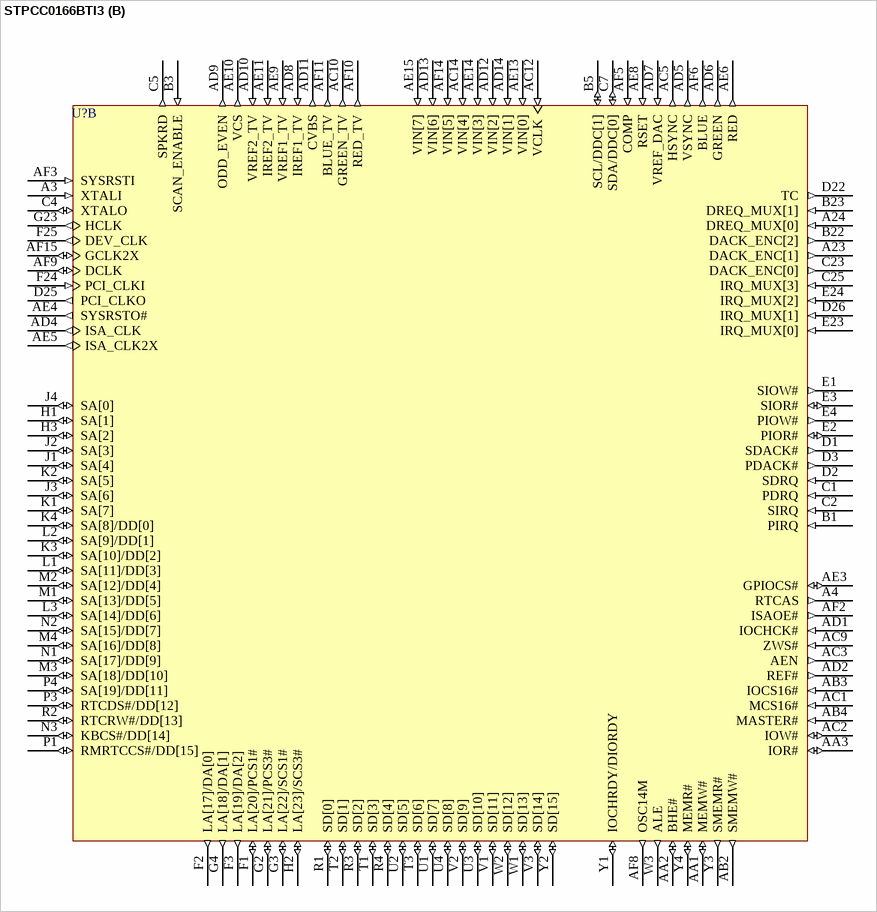
[diagram p20: symbol STPCC0166BTI3]

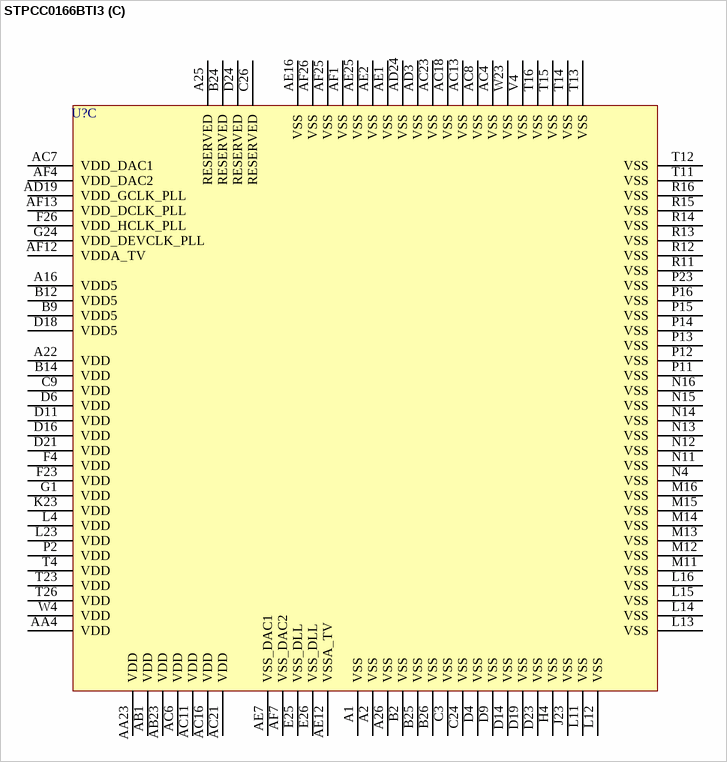
[diagram p21: symbol STPCC0166BTI3]

## STPCC0166BTI3
designator U?
STPCC01 PC Compatible Embedded Microprocessor, 66 MHz Core Speed, 388-Pin PBGA, Industrial; Published: 26-May-2004; DatasheetDocument: Issue 2.4, 8-Nov-2001; PackageDocument: Oct-2000; PackageReference: PBGA388; Publisher: Altium Limited
footprint PBGA388 (BGA, Plastic; 388 Balls; Body 35 x 35 mm; Pitch 1.27 mm)
part A pins: A5 PCI_INT[0] (in), A6 LOCK# (in), A7 STOP# (io), A8 FRAME# (io), A9 CBE[2] (io), A10 AD[31] (io), A11 AD[27] (io), A12 AD[24] (io), A13 AD[21] (io), A14 AD[17] (io), A15 AD[14] (io), A17 AD[9] (io), A18 AD[6] (io), A19 AD[3] (io), A20 AD[0] (io), A21 PCI_REQ#[1] (in), AA24 MD[8] (io), AA25 MD[7] (io), AA26 MD[40] (io), AB24 MD[6] (io), AB25 MD[37] (io), AB26 MD[38] (io), AC15 MA[2] (out), AC17 MA[6] (out), AC19 RAS#[2] (out), AC20 CAS#[1] (out), AC22 MWE# (out), AC24 MD[36] (io), AC25 MD[4] (io), AC26 MD[5] (io), AD15 MA[0] (out), AD16 MA[4] (out), AD17 MA[8] (out), AD18 RAS#[0] (out), AD20 CAS#[3] (out), AD21 CAS#[6] (out), AD22 MD[32] (io), AD23 MD[33] (io), AD25 MD[3] (io), AD26 MD[35] (io), AE17 MA[3] (out), AE18 MA[7] (out), AE19 MA[10] (out), AE20 RAS#[1] (out), AE21 CAS#[0] (out), AE22 CAS#[4] (out), AE23 CAS#[7] (out), AE24 MD[1] (io), AE26 MD[34] (io), AF16 MA[1] (out), AF17 MA[5] (out), AF18 MA[9] (out), AF19 MA[11] (out), AF20 RAS#[3] (out), AF21 CAS#[2] (out), AF22 CAS#[5] (out), AF23 MD[0] (io), AF24 MD[2] (io), B4 PCI_INT[2] (in), B6 PAR (io), B7 TRDY# (io), B8 CBE[3] (io), B10 AD[29] (io), B11 AD[25] (io), B13 AD[19] (io), B15 AD[13] (io), B16 AD[11] (io), B17 AD[7] (io), B18 AD[5] (io), B19 AD[2] (io), B20 PCI_REQ#[2] (in), B21 PCI_GNT#[1] (out), C6 PCI_INT[1] (in), C8 DEVSEL# (io), C10 CBE[1] (io), C11 AD[30] (io), C12 AD[26] (io), C13 AD[23] (io), C14 AD[22] (io), C15 AD[18] (io), C16 AD[15] (io), C17 AD[12] (io), C18 AD[8] (io), C19 AD[4] (io), C20 AD[1] (io), C21 PCI_REQ#[0] (in), C22 PCI_GNT#[0] (out), D5 PCI_INT[3] (in), D7 SERR# (out), D8 IRDY# (io), D10 CBE[0] (io), D12 AD[28] (io), D13 AD[20] (io), D15 AD[16] (io), D17 AD[10] (io), D20 PCI_GNT#[2] (out), G25 MD[30] (io), G26 MD[31] (io), H23 MD[62] (io), H24 MD[63] (io), H25 MD[60] (io), H26 MD[29] (io), J24 MD[61] (io), J25 MD[27] (io), J26 MD[28] (io), K24 MD[59] (io), K25 MD[57] (io), K26 MD[58] (io), L24 MD[26] (io), L25 MD[55] (io), L26 MD[56] (io), M23 MD[25] (io), M24 MD[24] (io), M25 MD[22] (io), M26 MD[23] (io), N23 MD[52] (io), N24 MD[54] (io), N25 MD[20] (io), N26 MD[21] (io), P24 MD[53] (io), P25 MD[18] (io), P26 MD[19] (io), R23 MD[50] (io), R24 MD[51] (io), R25 MD[48] (io), R26 MD[17] (io), T24 MD[49] (io), T25 MD[47] (io), U23 MD[15] (io), U24 MD[16] (io), U25 MD[45] (io), U26 MD[46] (io), V23 MD[11] (io), V24 MD[14] (io), V25 MD[44] (io), V26 MD[13] (io), W24 MD[12] (io), W25 MD[42] (io), W26 MD[43] (io), Y23 MD[39] (io), Y24 MD[10] (io), Y25 MD[9] (io), Y26 MD[41] (io)
part B pins: A3 XTALI (in), A4 RTCAS (out), A23 DACK_ENC[1] (out), A24 DREQ_MUX[0] (in), AA1 MEMW# (io), AA2 BHE# (io), AA3 IOR# (io), AB2 SMEMW# (out), AB3 IOCS16# (in), AB4 MASTER# (in), AC1 MCS16# (in), AC2 IOW# (io), AC3 AEN (out), AC5 HSYNC (out), AC9 ZWS# (in), AC10 GREEN_TV (out), AC12 VCLK (in), AC14 VIN[4] (in), AD1 IOCHCK# (in), AD2 REF# (out), AD4 ISA_CLK (out), AD5 VSYNC (out), AD6 GREEN (out), AD7 VREF_DAC (in), AD8 IREF1_TV (in), AD9 ODD_EVEN (out), AD10 VREF2_TV (in), AD11 CVBS (out), AD12 VIN[2] (in), AD13 VIN[6] (in), AD14 VIN[1] (in), AE3 GPIOCS# (io), AE4 SYSRSTO# (out), AE5 ISA_CLK2X (out), AE6 RED (out), AE8 RSET (in), AE9 VREF1_TV (in), AE10 VCS (out), AE11 IREF2_TV (in), AE13 VIN[0] (in), AE14 VIN[3] (in), AE15 VIN[7] (in), AF2 ISAOE# (out), AF3 SYSRSTI (in), AF5 COMP (in), AF6 BLUE (out), AF8 OSC14M (out), AF9 DCLK (io), AF10 RED_TV (out), AF11 BLUE_TV (out), AF14 VIN[5] (in), AF15 GCLK2X (io), B1 PIRQ (in), B3 SCAN_ENABLE (in), B5 SCL/DDC[1] (io), B22 DACK_ENC[2] (out), B23 DREQ_MUX[1] (in), C1 PDRQ (in), C2 SIRQ (in), C4 XTALO (io), C5 SPKRD (out), C7 SDA/DDC[0] (io), C23 DACK_ENC[0] (out), C25 IRQ_MUX[3] (in), D1 SDACK# (out), D2 SDRQ (in), D3 PDACK# (out), D22 TC (out), D25 PCI_CLKO (out), D26 IRQ_MUX[1] (in), E1 SIOW# (out), E2 PIOR# (io), E3 SIOR# (io), E4 PIOW# (out), E23 IRQ_MUX[0] (in), E24 IRQ_MUX[2] (in), F1 LA[20]/PCS1# (io), F2 LA[17]/DA[0] (out), F3 LA[19]/DA[2] (out), F24 PCI_CLKI (in), F25 DEV_CLK (out), G2 LA[21]/PCS3# (io), G3 LA[22]/SCS1# (io), G4 LA[18]/DA[1] (out), G23 HCLK (out), H1 SA[1] (io), H2 LA[23]/SCS3# (io), H3 SA[2] (io), J1 SA[4] (io), J2 SA[3] (io), J3 SA[6] (io), J4 SA[0] (io), K1 SA[7] (io), K2 SA[5] (io), K3 SA[10]/DD[2] (io), K4 SA[8]/DD[0] (io), L1 SA[11]/DD[3] (io), L2 SA[9]/DD[1] (io), L3 SA[14]/DD[6] (io), M1 SA[13]/DD[5] (io), M2 SA[12]/DD[4] (io), M3 SA[18]/DD[10] (io), M4 SA[16]/DD[8] (io), N1 SA[17]/DD[9] (io), N2 SA[15]/DD[7] (io), N3 KBCS#/DD[14] (io), P1 RMRTCCS#/DD[15] (io), P3 RTCDS#/DD[12] (io), P4 SA[19]/DD[11] (io), R1 SD[0] (io), R2 RTCRW#/DD[13] (io), R3 SD[2] (io), R4 SD[4] (io), T1 SD[3] (io), T2 SD[1] (io), T3 SD[6] (io), U1 SD[7] (io), U2 SD[5] (io), U3 SD[10] (io), U4 SD[8] (io), V1 SD[11] (io), V2 SD[9] (io), V3 SD[14] (io), W1 SD[13] (io), W2 SD[12] (io), W3 ALE (out), Y1 IOCHRDY/DIORDY (io), Y2 SD[15] (io), Y3 SMEMR# (out), Y4 MEMR# (io)
part C pins: A1 VSS (power), A2 VSS (power), A16 VDD5 (power), A22 VDD (power), A25 RESERVED, A26 VSS (power), AA4 VDD (power), AA23 VDD (power), AB1 VDD (power), AB23 VDD (power), AC4 VSS (power), AC6 VDD (power), AC7 VDD_DAC1 (power), AC8 VSS (power), AC11 VDD (power), AC13 VSS (power), AC16 VDD (power), AC18 VSS (power), AC21 VDD (power), AC23 VSS (power), AD3 VSS (power), AD19 VDD_GCLK_PLL (power), AD24 VSS (power), AE1 VSS (power), AE2 VSS (power), AE7 VSS_DAC1 (power), AE12 VSSA_TV (power), AE16 VSS (power), AE25 VSS (power), AF1 VSS (power), AF4 VDD_DAC2 (power), AF7 VSS_DAC2 (power), AF12 VDDA_TV (power), AF13 VDD_DCLK_PLL (power), AF25 VSS (power), AF26 VSS (power), B2 VSS (power), B9 VDD5 (power), B12 VDD5 (power), B14 VDD (power), B24 RESERVED, B25 VSS (power), B26 VSS (power), C3 VSS (power), C9 VDD (power), C24 VSS (power), C26 RESERVED, D4 VSS (power), D6 VDD (power), D9 VSS (power), D11 VDD (power), D14 VSS (power), D16 VDD (power), D18 VDD5 (power), D19 VSS (power), D21 VDD (power), D23 VSS (power), D24 RESERVED, E25 VSS_DLL (power), E26 VSS_DLL (power), F4 VDD (power), F23 VDD (power), F26 VDD_HCLK_PLL (power), G1 VDD (power), G24 VDD_DEVCLK_PLL (power), H4 VSS (power), J23 VSS (power), K23 VDD (power), L4 VDD (power), L11 VSS (power), L12 VSS (power), L13 VSS (power), L14 VSS (power), L15 VSS (power), L16 VSS (power), L23 VDD (power), M11 VSS (power), M12 VSS (power), M13 VSS (power), M14 VSS (power), M15 VSS (power), M16 VSS (power), N4 VSS (power), N11 VSS (power), N12 VSS (power), N13 VSS (power), N14 VSS (power), N15 VSS (power), N16 VSS (power), P2 VDD (power), P11 VSS (power), P12 VSS (power), P13 VSS (power), P14 VSS (power), P15 VSS (power), P16 VSS (power), P23 VSS (power), R11 VSS (power), R12 VSS (power), R13 VSS (power), R14 VSS (power), R15 VSS (power), R16 VSS (power), T4 VDD (power), T11 VSS (power), T12 VSS (power), T13 VSS (power), T14 VSS (power), T15 VSS (power), T16 VSS (power), T23 VDD (power), T26 VDD (power), V4 VSS (power), W4 VDD (power), W23 VSS (power)

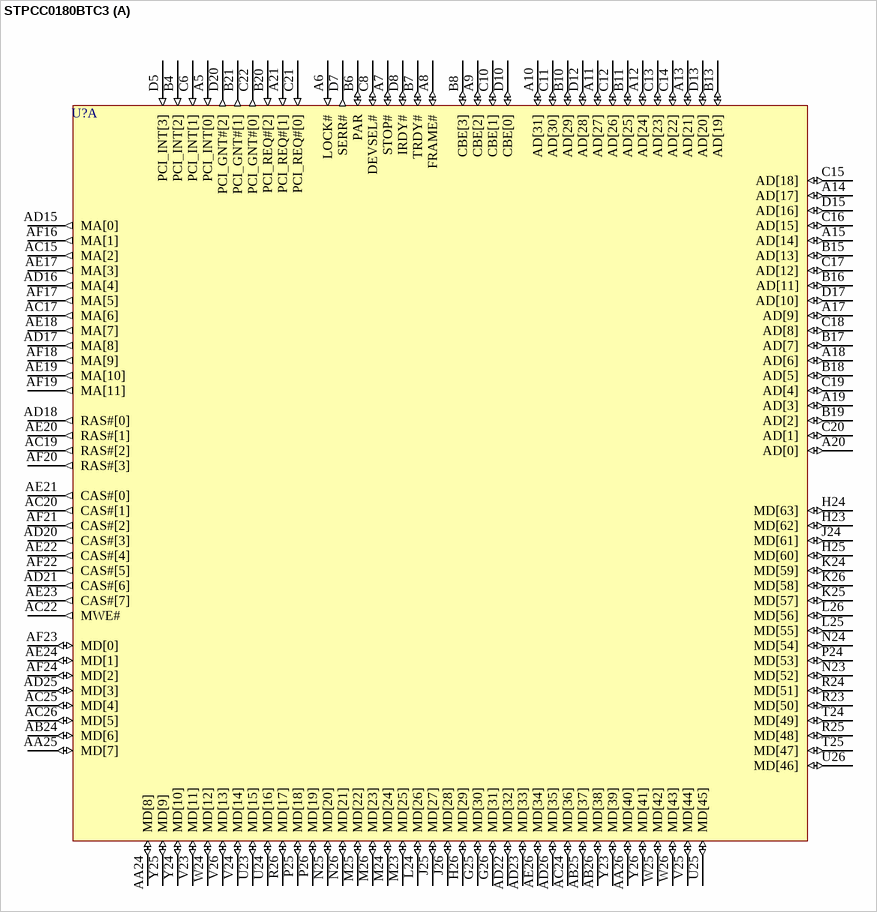
[diagram p22: symbol STPCC0180BTC3]

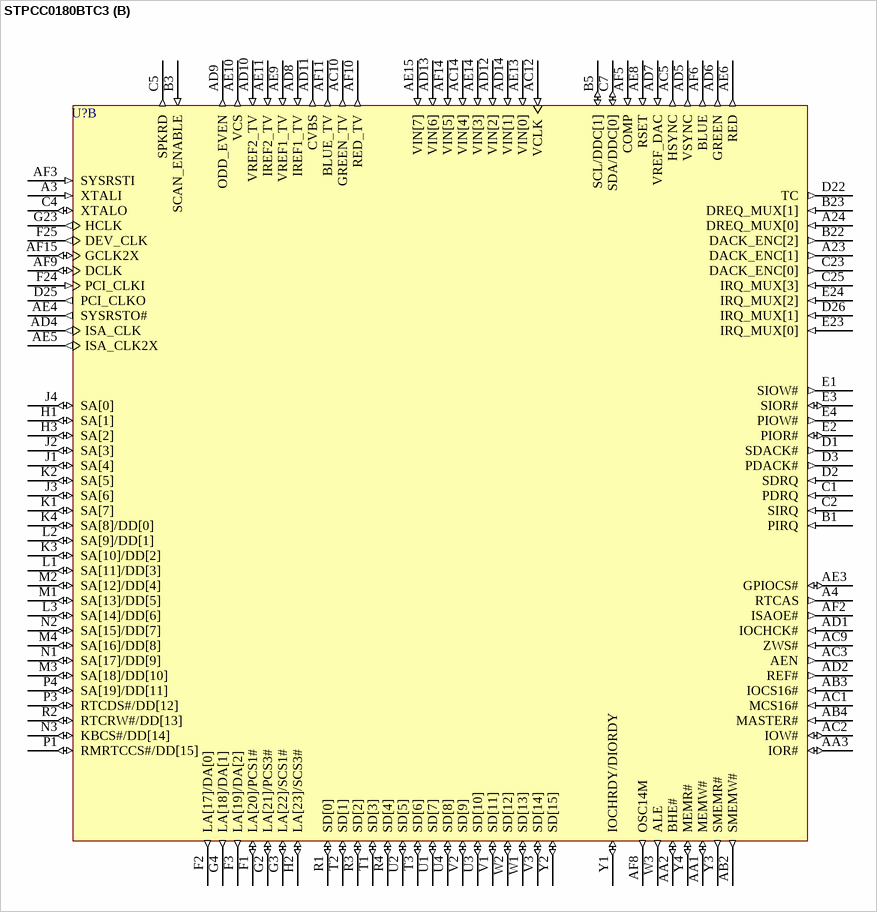
[diagram p23: symbol STPCC0180BTC3]

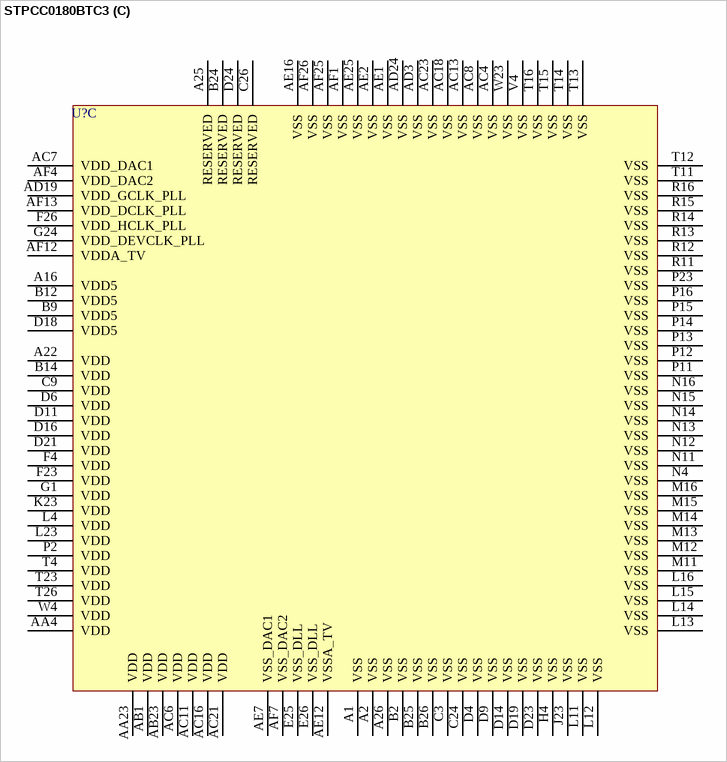
[diagram p24: symbol STPCC0180BTC3]

## STPCC0180BTC3
designator U?
STPCC01 PC Compatible Embedded Microprocessor, 80 MHz Core Speed, 388-Pin PBGA, Commercial; Published: 26-May-2004; DatasheetDocument: Issue 2.4, 8-Nov-2001; PackageDocument: Oct-2000; PackageReference: PBGA388; Publisher: Altium Limited
footprint PBGA388 (BGA, Plastic; 388 Balls; Body 35 x 35 mm; Pitch 1.27 mm)
part A pins: A5 PCI_INT[0] (in), A6 LOCK# (in), A7 STOP# (io), A8 FRAME# (io), A9 CBE[2] (io), A10 AD[31] (io), A11 AD[27] (io), A12 AD[24] (io), A13 AD[21] (io), A14 AD[17] (io), A15 AD[14] (io), A17 AD[9] (io), A18 AD[6] (io), A19 AD[3] (io), A20 AD[0] (io), A21 PCI_REQ#[1] (in), AA24 MD[8] (io), AA25 MD[7] (io), AA26 MD[40] (io), AB24 MD[6] (io), AB25 MD[37] (io), AB26 MD[38] (io), AC15 MA[2] (out), AC17 MA[6] (out), AC19 RAS#[2] (out), AC20 CAS#[1] (out), AC22 MWE# (out), AC24 MD[36] (io), AC25 MD[4] (io), AC26 MD[5] (io), AD15 MA[0] (out), AD16 MA[4] (out), AD17 MA[8] (out), AD18 RAS#[0] (out), AD20 CAS#[3] (out), AD21 CAS#[6] (out), AD22 MD[32] (io), AD23 MD[33] (io), AD25 MD[3] (io), AD26 MD[35] (io), AE17 MA[3] (out), AE18 MA[7] (out), AE19 MA[10] (out), AE20 RAS#[1] (out), AE21 CAS#[0] (out), AE22 CAS#[4] (out), AE23 CAS#[7] (out), AE24 MD[1] (io), AE26 MD[34] (io), AF16 MA[1] (out), AF17 MA[5] (out), AF18 MA[9] (out), AF19 MA[11] (out), AF20 RAS#[3] (out), AF21 CAS#[2] (out), AF22 CAS#[5] (out), AF23 MD[0] (io), AF24 MD[2] (io), B4 PCI_INT[2] (in), B6 PAR (io), B7 TRDY# (io), B8 CBE[3] (io), B10 AD[29] (io), B11 AD[25] (io), B13 AD[19] (io), B15 AD[13] (io), B16 AD[11] (io), B17 AD[7] (io), B18 AD[5] (io), B19 AD[2] (io), B20 PCI_REQ#[2] (in), B21 PCI_GNT#[1] (out), C6 PCI_INT[1] (in), C8 DEVSEL# (io), C10 CBE[1] (io), C11 AD[30] (io), C12 AD[26] (io), C13 AD[23] (io), C14 AD[22] (io), C15 AD[18] (io), C16 AD[15] (io), C17 AD[12] (io), C18 AD[8] (io), C19 AD[4] (io), C20 AD[1] (io), C21 PCI_REQ#[0] (in), C22 PCI_GNT#[0] (out), D5 PCI_INT[3] (in), D7 SERR# (out), D8 IRDY# (io), D10 CBE[0] (io), D12 AD[28] (io), D13 AD[20] (io), D15 AD[16] (io), D17 AD[10] (io), D20 PCI_GNT#[2] (out), G25 MD[30] (io), G26 MD[31] (io), H23 MD[62] (io), H24 MD[63] (io), H25 MD[60] (io), H26 MD[29] (io), J24 MD[61] (io), J25 MD[27] (io), J26 MD[28] (io), K24 MD[59] (io), K25 MD[57] (io), K26 MD[58] (io), L24 MD[26] (io), L25 MD[55] (io), L26 MD[56] (io), M23 MD[25] (io), M24 MD[24] (io), M25 MD[22] (io), M26 MD[23] (io), N23 MD[52] (io), N24 MD[54] (io), N25 MD[20] (io), N26 MD[21] (io), P24 MD[53] (io), P25 MD[18] (io), P26 MD[19] (io), R23 MD[50] (io), R24 MD[51] (io), R25 MD[48] (io), R26 MD[17] (io), T24 MD[49] (io), T25 MD[47] (io), U23 MD[15] (io), U24 MD[16] (io), U25 MD[45] (io), U26 MD[46] (io), V23 MD[11] (io), V24 MD[14] (io), V25 MD[44] (io), V26 MD[13] (io), W24 MD[12] (io), W25 MD[42] (io), W26 MD[43] (io), Y23 MD[39] (io), Y24 MD[10] (io), Y25 MD[9] (io), Y26 MD[41] (io)
part B pins: A3 XTALI (in), A4 RTCAS (out), A23 DACK_ENC[1] (out), A24 DREQ_MUX[0] (in), AA1 MEMW# (io), AA2 BHE# (io), AA3 IOR# (io), AB2 SMEMW# (out), AB3 IOCS16# (in), AB4 MASTER# (in), AC1 MCS16# (in), AC2 IOW# (io), AC3 AEN (out), AC5 HSYNC (out), AC9 ZWS# (in), AC10 GREEN_TV (out), AC12 VCLK (in), AC14 VIN[4] (in), AD1 IOCHCK# (in), AD2 REF# (out), AD4 ISA_CLK (out), AD5 VSYNC (out), AD6 GREEN (out), AD7 VREF_DAC (in), AD8 IREF1_TV (in), AD9 ODD_EVEN (out), AD10 VREF2_TV (in), AD11 CVBS (out), AD12 VIN[2] (in), AD13 VIN[6] (in), AD14 VIN[1] (in), AE3 GPIOCS# (io), AE4 SYSRSTO# (out), AE5 ISA_CLK2X (out), AE6 RED (out), AE8 RSET (in), AE9 VREF1_TV (in), AE10 VCS (out), AE11 IREF2_TV (in), AE13 VIN[0] (in), AE14 VIN[3] (in), AE15 VIN[7] (in), AF2 ISAOE# (out), AF3 SYSRSTI (in), AF5 COMP (in), AF6 BLUE (out), AF8 OSC14M (out), AF9 DCLK (io), AF10 RED_TV (out), AF11 BLUE_TV (out), AF14 VIN[5] (in), AF15 GCLK2X (io), B1 PIRQ (in), B3 SCAN_ENABLE (in), B5 SCL/DDC[1] (io), B22 DACK_ENC[2] (out), B23 DREQ_MUX[1] (in), C1 PDRQ (in), C2 SIRQ (in), C4 XTALO (io), C5 SPKRD (out), C7 SDA/DDC[0] (io), C23 DACK_ENC[0] (out), C25 IRQ_MUX[3] (in), D1 SDACK# (out), D2 SDRQ (in), D3 PDACK# (out), D22 TC (out), D25 PCI_CLKO (out), D26 IRQ_MUX[1] (in), E1 SIOW# (out), E2 PIOR# (io), E3 SIOR# (io), E4 PIOW# (out), E23 IRQ_MUX[0] (in), E24 IRQ_MUX[2] (in), F1 LA[20]/PCS1# (io), F2 LA[17]/DA[0] (out), F3 LA[19]/DA[2] (out), F24 PCI_CLKI (in), F25 DEV_CLK (out), G2 LA[21]/PCS3# (io), G3 LA[22]/SCS1# (io), G4 LA[18]/DA[1] (out), G23 HCLK (out), H1 SA[1] (io), H2 LA[23]/SCS3# (io), H3 SA[2] (io), J1 SA[4] (io), J2 SA[3] (io), J3 SA[6] (io), J4 SA[0] (io), K1 SA[7] (io), K2 SA[5] (io), K3 SA[10]/DD[2] (io), K4 SA[8]/DD[0] (io), L1 SA[11]/DD[3] (io), L2 SA[9]/DD[1] (io), L3 SA[14]/DD[6] (io), M1 SA[13]/DD[5] (io), M2 SA[12]/DD[4] (io), M3 SA[18]/DD[10] (io), M4 SA[16]/DD[8] (io), N1 SA[17]/DD[9] (io), N2 SA[15]/DD[7] (io), N3 KBCS#/DD[14] (io), P1 RMRTCCS#/DD[15] (io), P3 RTCDS#/DD[12] (io), P4 SA[19]/DD[11] (io), R1 SD[0] (io), R2 RTCRW#/DD[13] (io), R3 SD[2] (io), R4 SD[4] (io), T1 SD[3] (io), T2 SD[1] (io), T3 SD[6] (io), U1 SD[7] (io), U2 SD[5] (io), U3 SD[10] (io), U4 SD[8] (io), V1 SD[11] (io), V2 SD[9] (io), V3 SD[14] (io), W1 SD[13] (io), W2 SD[12] (io), W3 ALE (out), Y1 IOCHRDY/DIORDY (io), Y2 SD[15] (io), Y3 SMEMR# (out), Y4 MEMR# (io)
part C pins: A1 VSS (power), A2 VSS (power), A16 VDD5 (power), A22 VDD (power), A25 RESERVED, A26 VSS (power), AA4 VDD (power), AA23 VDD (power), AB1 VDD (power), AB23 VDD (power), AC4 VSS (power), AC6 VDD (power), AC7 VDD_DAC1 (power), AC8 VSS (power), AC11 VDD (power), AC13 VSS (power), AC16 VDD (power), AC18 VSS (power), AC21 VDD (power), AC23 VSS (power), AD3 VSS (power), AD19 VDD_GCLK_PLL (power), AD24 VSS (power), AE1 VSS (power), AE2 VSS (power), AE7 VSS_DAC1 (power), AE12 VSSA_TV (power), AE16 VSS (power), AE25 VSS (power), AF1 VSS (power), AF4 VDD_DAC2 (power), AF7 VSS_DAC2 (power), AF12 VDDA_TV (power), AF13 VDD_DCLK_PLL (power), AF25 VSS (power), AF26 VSS (power), B2 VSS (power), B9 VDD5 (power), B12 VDD5 (power), B14 VDD (power), B24 RESERVED, B25 VSS (power), B26 VSS (power), C3 VSS (power), C9 VDD (power), C24 VSS (power), C26 RESERVED, D4 VSS (power), D6 VDD (power), D9 VSS (power), D11 VDD (power), D14 VSS (power), D16 VDD (power), D18 VDD5 (power), D19 VSS (power), D21 VDD (power), D23 VSS (power), D24 RESERVED, E25 VSS_DLL (power), E26 VSS_DLL (power), F4 VDD (power), F23 VDD (power), F26 VDD_HCLK_PLL (power), G1 VDD (power), G24 VDD_DEVCLK_PLL (power), H4 VSS (power), J23 VSS (power), K23 VDD (power), L4 VDD (power), L11 VSS (power), L12 VSS (power), L13 VSS (power), L14 VSS (power), L15 VSS (power), L16 VSS (power), L23 VDD (power), M11 VSS (power), M12 VSS (power), M13 VSS (power), M14 VSS (power), M15 VSS (power), M16 VSS (power), N4 VSS (power), N11 VSS (power), N12 VSS (power), N13 VSS (power), N14 VSS (power), N15 VSS (power), N16 VSS (power), P2 VDD (power), P11 VSS (power), P12 VSS (power), P13 VSS (power), P14 VSS (power), P15 VSS (power), P16 VSS (power), P23 VSS (power), R11 VSS (power), R12 VSS (power), R13 VSS (power), R14 VSS (power), R15 VSS (power), R16 VSS (power), T4 VDD (power), T11 VSS (power), T12 VSS (power), T13 VSS (power), T14 VSS (power), T15 VSS (power), T16 VSS (power), T23 VDD (power), T26 VDD (power), V4 VSS (power), W4 VDD (power), W23 VSS (power)

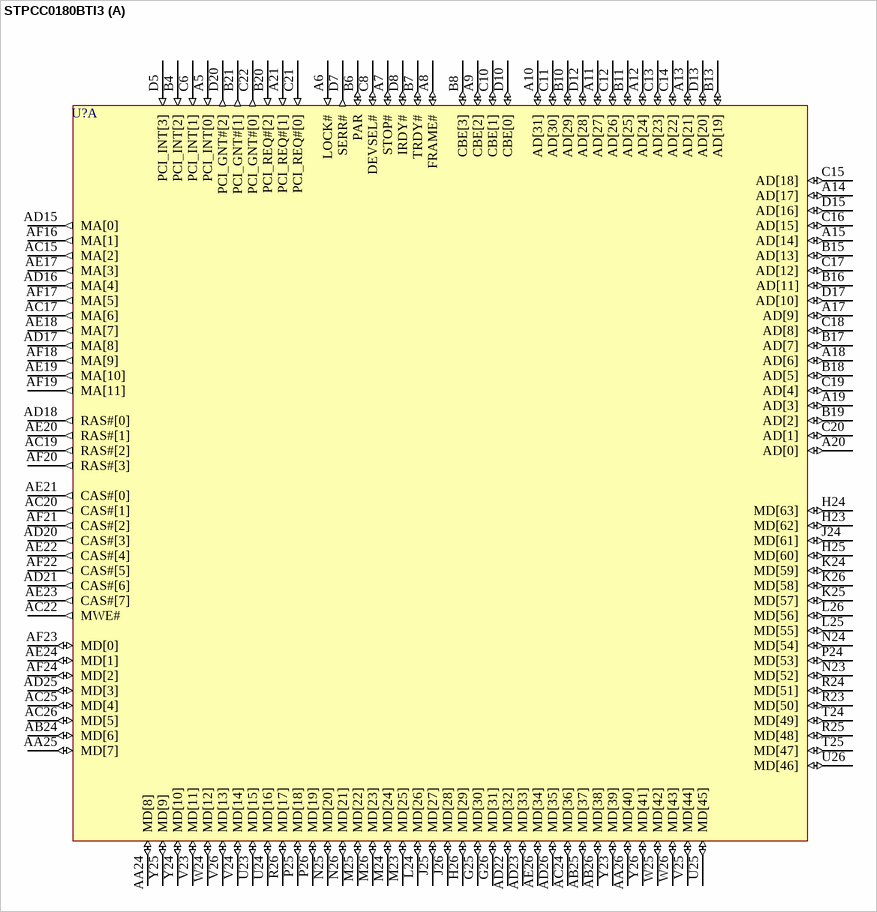
[diagram p25: symbol STPCC0180BTI3]

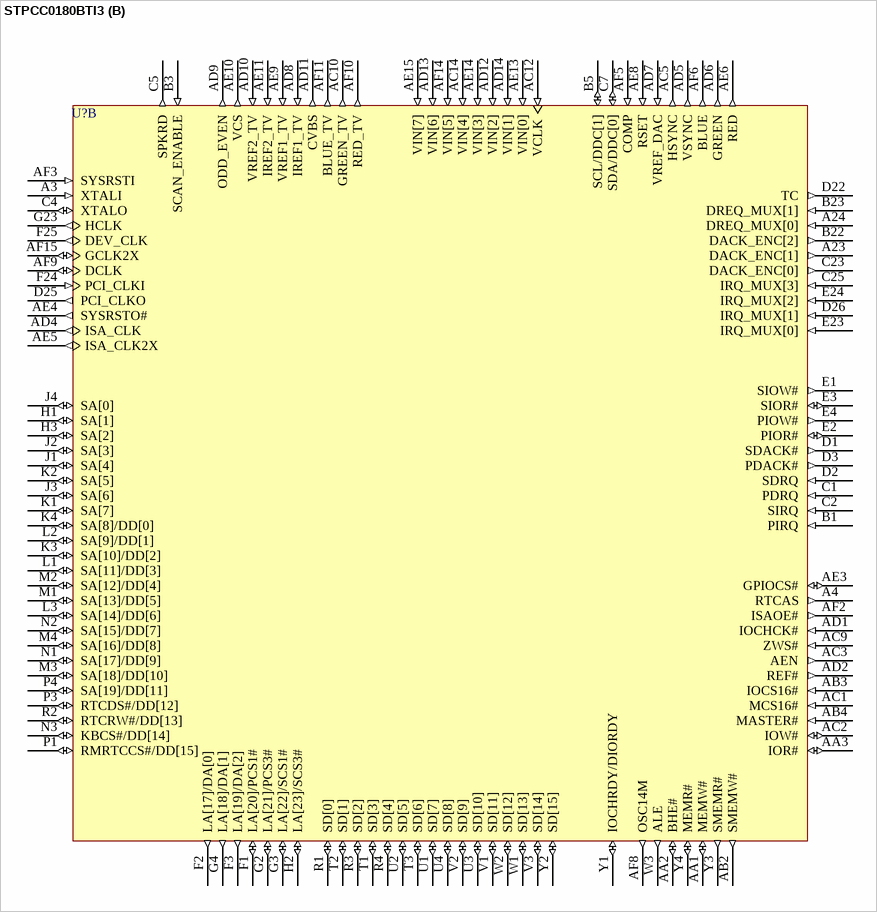
[diagram p26: symbol STPCC0180BTI3]

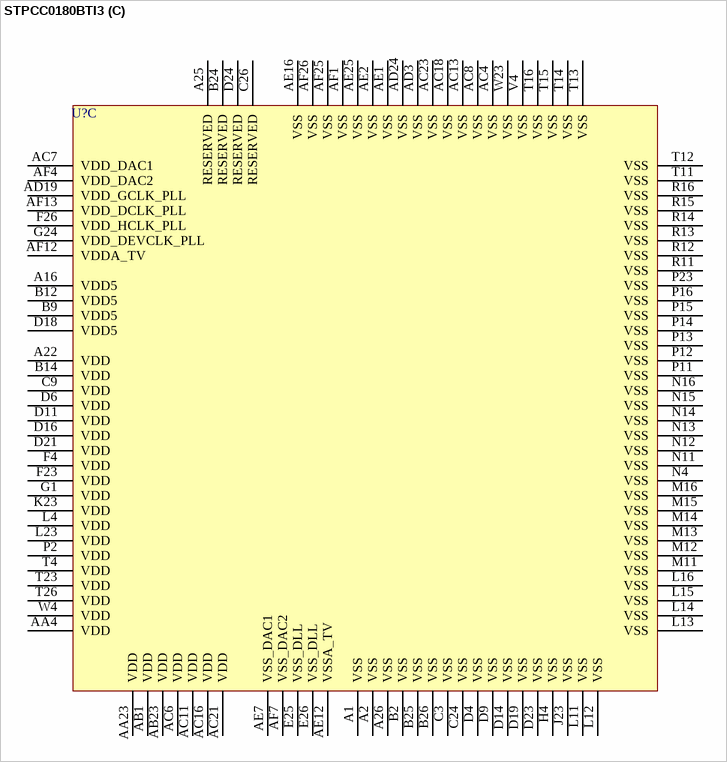
[diagram p27: symbol STPCC0180BTI3]

## STPCC0180BTI3
designator U?
STPCC01 PC Compatible Embedded Microprocessor, 80 MHz Core Speed, 388-Pin PBGA, Industrial; Published: 26-May-2004; DatasheetDocument: Issue 2.4, 8-Nov-2001; PackageDocument: Oct-2000; PackageReference: PBGA388; Publisher: Altium Limited
footprint PBGA388 (BGA, Plastic; 388 Balls; Body 35 x 35 mm; Pitch 1.27 mm)
part A pins: A5 PCI_INT[0] (in), A6 LOCK# (in), A7 STOP# (io), A8 FRAME# (io), A9 CBE[2] (io), A10 AD[31] (io), A11 AD[27] (io), A12 AD[24] (io), A13 AD[21] (io), A14 AD[17] (io), A15 AD[14] (io), A17 AD[9] (io), A18 AD[6] (io), A19 AD[3] (io), A20 AD[0] (io), A21 PCI_REQ#[1] (in), AA24 MD[8] (io), AA25 MD[7] (io), AA26 MD[40] (io), AB24 MD[6] (io), AB25 MD[37] (io), AB26 MD[38] (io), AC15 MA[2] (out), AC17 MA[6] (out), AC19 RAS#[2] (out), AC20 CAS#[1] (out), AC22 MWE# (out), AC24 MD[36] (io), AC25 MD[4] (io), AC26 MD[5] (io), AD15 MA[0] (out), AD16 MA[4] (out), AD17 MA[8] (out), AD18 RAS#[0] (out), AD20 CAS#[3] (out), AD21 CAS#[6] (out), AD22 MD[32] (io), AD23 MD[33] (io), AD25 MD[3] (io), AD26 MD[35] (io), AE17 MA[3] (out), AE18 MA[7] (out), AE19 MA[10] (out), AE20 RAS#[1] (out), AE21 CAS#[0] (out), AE22 CAS#[4] (out), AE23 CAS#[7] (out), AE24 MD[1] (io), AE26 MD[34] (io), AF16 MA[1] (out), AF17 MA[5] (out), AF18 MA[9] (out), AF19 MA[11] (out), AF20 RAS#[3] (out), AF21 CAS#[2] (out), AF22 CAS#[5] (out), AF23 MD[0] (io), AF24 MD[2] (io), B4 PCI_INT[2] (in), B6 PAR (io), B7 TRDY# (io), B8 CBE[3] (io), B10 AD[29] (io), B11 AD[25] (io), B13 AD[19] (io), B15 AD[13] (io), B16 AD[11] (io), B17 AD[7] (io), B18 AD[5] (io), B19 AD[2] (io), B20 PCI_REQ#[2] (in), B21 PCI_GNT#[1] (out), C6 PCI_INT[1] (in), C8 DEVSEL# (io), C10 CBE[1] (io), C11 AD[30] (io), C12 AD[26] (io), C13 AD[23] (io), C14 AD[22] (io), C15 AD[18] (io), C16 AD[15] (io), C17 AD[12] (io), C18 AD[8] (io), C19 AD[4] (io), C20 AD[1] (io), C21 PCI_REQ#[0] (in), C22 PCI_GNT#[0] (out), D5 PCI_INT[3] (in), D7 SERR# (out), D8 IRDY# (io), D10 CBE[0] (io), D12 AD[28] (io), D13 AD[20] (io), D15 AD[16] (io), D17 AD[10] (io), D20 PCI_GNT#[2] (out), G25 MD[30] (io), G26 MD[31] (io), H23 MD[62] (io), H24 MD[63] (io), H25 MD[60] (io), H26 MD[29] (io), J24 MD[61] (io), J25 MD[27] (io), J26 MD[28] (io), K24 MD[59] (io), K25 MD[57] (io), K26 MD[58] (io), L24 MD[26] (io), L25 MD[55] (io), L26 MD[56] (io), M23 MD[25] (io), M24 MD[24] (io), M25 MD[22] (io), M26 MD[23] (io), N23 MD[52] (io), N24 MD[54] (io), N25 MD[20] (io), N26 MD[21] (io), P24 MD[53] (io), P25 MD[18] (io), P26 MD[19] (io), R23 MD[50] (io), R24 MD[51] (io), R25 MD[48] (io), R26 MD[17] (io), T24 MD[49] (io), T25 MD[47] (io), U23 MD[15] (io), U24 MD[16] (io), U25 MD[45] (io), U26 MD[46] (io), V23 MD[11] (io), V24 MD[14] (io), V25 MD[44] (io), V26 MD[13] (io), W24 MD[12] (io), W25 MD[42] (io), W26 MD[43] (io), Y23 MD[39] (io), Y24 MD[10] (io), Y25 MD[9] (io), Y26 MD[41] (io)
part B pins: A3 XTALI (in), A4 RTCAS (out), A23 DACK_ENC[1] (out), A24 DREQ_MUX[0] (in), AA1 MEMW# (io), AA2 BHE# (io), AA3 IOR# (io), AB2 SMEMW# (out), AB3 IOCS16# (in), AB4 MASTER# (in), AC1 MCS16# (in), AC2 IOW# (io), AC3 AEN (out), AC5 HSYNC (out), AC9 ZWS# (in), AC10 GREEN_TV (out), AC12 VCLK (in), AC14 VIN[4] (in), AD1 IOCHCK# (in), AD2 REF# (out), AD4 ISA_CLK (out), AD5 VSYNC (out), AD6 GREEN (out), AD7 VREF_DAC (in), AD8 IREF1_TV (in), AD9 ODD_EVEN (out), AD10 VREF2_TV (in), AD11 CVBS (out), AD12 VIN[2] (in), AD13 VIN[6] (in), AD14 VIN[1] (in), AE3 GPIOCS# (io), AE4 SYSRSTO# (out), AE5 ISA_CLK2X (out), AE6 RED (out), AE8 RSET (in), AE9 VREF1_TV (in), AE10 VCS (out), AE11 IREF2_TV (in), AE13 VIN[0] (in), AE14 VIN[3] (in), AE15 VIN[7] (in), AF2 ISAOE# (out), AF3 SYSRSTI (in), AF5 COMP (in), AF6 BLUE (out), AF8 OSC14M (out), AF9 DCLK (io), AF10 RED_TV (out), AF11 BLUE_TV (out), AF14 VIN[5] (in), AF15 GCLK2X (io), B1 PIRQ (in), B3 SCAN_ENABLE (in), B5 SCL/DDC[1] (io), B22 DACK_ENC[2] (out), B23 DREQ_MUX[1] (in), C1 PDRQ (in), C2 SIRQ (in), C4 XTALO (io), C5 SPKRD (out), C7 SDA/DDC[0] (io), C23 DACK_ENC[0] (out), C25 IRQ_MUX[3] (in), D1 SDACK# (out), D2 SDRQ (in), D3 PDACK# (out), D22 TC (out), D25 PCI_CLKO (out), D26 IRQ_MUX[1] (in), E1 SIOW# (out), E2 PIOR# (io), E3 SIOR# (io), E4 PIOW# (out), E23 IRQ_MUX[0] (in), E24 IRQ_MUX[2] (in), F1 LA[20]/PCS1# (io), F2 LA[17]/DA[0] (out), F3 LA[19]/DA[2] (out), F24 PCI_CLKI (in), F25 DEV_CLK (out), G2 LA[21]/PCS3# (io), G3 LA[22]/SCS1# (io), G4 LA[18]/DA[1] (out), G23 HCLK (out), H1 SA[1] (io), H2 LA[23]/SCS3# (io), H3 SA[2] (io), J1 SA[4] (io), J2 SA[3] (io), J3 SA[6] (io), J4 SA[0] (io), K1 SA[7] (io), K2 SA[5] (io), K3 SA[10]/DD[2] (io), K4 SA[8]/DD[0] (io), L1 SA[11]/DD[3] (io), L2 SA[9]/DD[1] (io), L3 SA[14]/DD[6] (io), M1 SA[13]/DD[5] (io), M2 SA[12]/DD[4] (io), M3 SA[18]/DD[10] (io), M4 SA[16]/DD[8] (io), N1 SA[17]/DD[9] (io), N2 SA[15]/DD[7] (io), N3 KBCS#/DD[14] (io), P1 RMRTCCS#/DD[15] (io), P3 RTCDS#/DD[12] (io), P4 SA[19]/DD[11] (io), R1 SD[0] (io), R2 RTCRW#/DD[13] (io), R3 SD[2] (io), R4 SD[4] (io), T1 SD[3] (io), T2 SD[1] (io), T3 SD[6] (io), U1 SD[7] (io), U2 SD[5] (io), U3 SD[10] (io), U4 SD[8] (io), V1 SD[11] (io), V2 SD[9] (io), V3 SD[14] (io), W1 SD[13] (io), W2 SD[12] (io), W3 ALE (out), Y1 IOCHRDY/DIORDY (io), Y2 SD[15] (io), Y3 SMEMR# (out), Y4 MEMR# (io)
part C pins: A1 VSS (power), A2 VSS (power), A16 VDD5 (power), A22 VDD (power), A25 RESERVED, A26 VSS (power), AA4 VDD (power), AA23 VDD (power), AB1 VDD (power), AB23 VDD (power), AC4 VSS (power), AC6 VDD (power), AC7 VDD_DAC1 (power), AC8 VSS (power), AC11 VDD (power), AC13 VSS (power), AC16 VDD (power), AC18 VSS (power), AC21 VDD (power), AC23 VSS (power), AD3 VSS (power), AD19 VDD_GCLK_PLL (power), AD24 VSS (power), AE1 VSS (power), AE2 VSS (power), AE7 VSS_DAC1 (power), AE12 VSSA_TV (power), AE16 VSS (power), AE25 VSS (power), AF1 VSS (power), AF4 VDD_DAC2 (power), AF7 VSS_DAC2 (power), AF12 VDDA_TV (power), AF13 VDD_DCLK_PLL (power), AF25 VSS (power), AF26 VSS (power), B2 VSS (power), B9 VDD5 (power), B12 VDD5 (power), B14 VDD (power), B24 RESERVED, B25 VSS (power), B26 VSS (power), C3 VSS (power), C9 VDD (power), C24 VSS (power), C26 RESERVED, D4 VSS (power), D6 VDD (power), D9 VSS (power), D11 VDD (power), D14 VSS (power), D16 VDD (power), D18 VDD5 (power), D19 VSS (power), D21 VDD (power), D23 VSS (power), D24 RESERVED, E25 VSS_DLL (power), E26 VSS_DLL (power), F4 VDD (power), F23 VDD (power), F26 VDD_HCLK_PLL (power), G1 VDD (power), G24 VDD_DEVCLK_PLL (power), H4 VSS (power), J23 VSS (power), K23 VDD (power), L4 VDD (power), L11 VSS (power), L12 VSS (power), L13 VSS (power), L14 VSS (power), L15 VSS (power), L16 VSS (power), L23 VDD (power), M11 VSS (power), M12 VSS (power), M13 VSS (power), M14 VSS (power), M15 VSS (power), M16 VSS (power), N4 VSS (power), N11 VSS (power), N12 VSS (power), N13 VSS (power), N14 VSS (power), N15 VSS (power), N16 VSS (power), P2 VDD (power), P11 VSS (power), P12 VSS (power), P13 VSS (power), P14 VSS (power), P15 VSS (power), P16 VSS (power), P23 VSS (power), R11 VSS (power), R12 VSS (power), R13 VSS (power), R14 VSS (power), R15 VSS (power), R16 VSS (power), T4 VDD (power), T11 VSS (power), T12 VSS (power), T13 VSS (power), T14 VSS (power), T15 VSS (power), T16 VSS (power), T23 VDD (power), T26 VDD (power), V4 VSS (power), W4 VDD (power), W23 VSS (power)

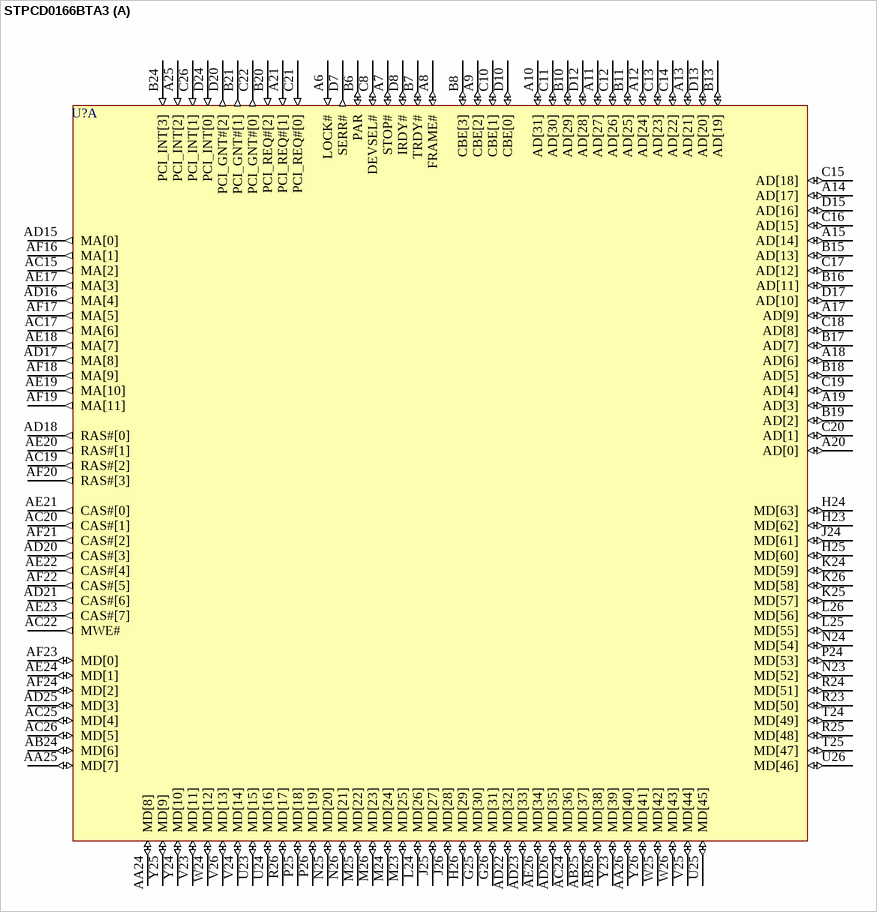
[diagram p28: symbol STPCD0166BTA3]

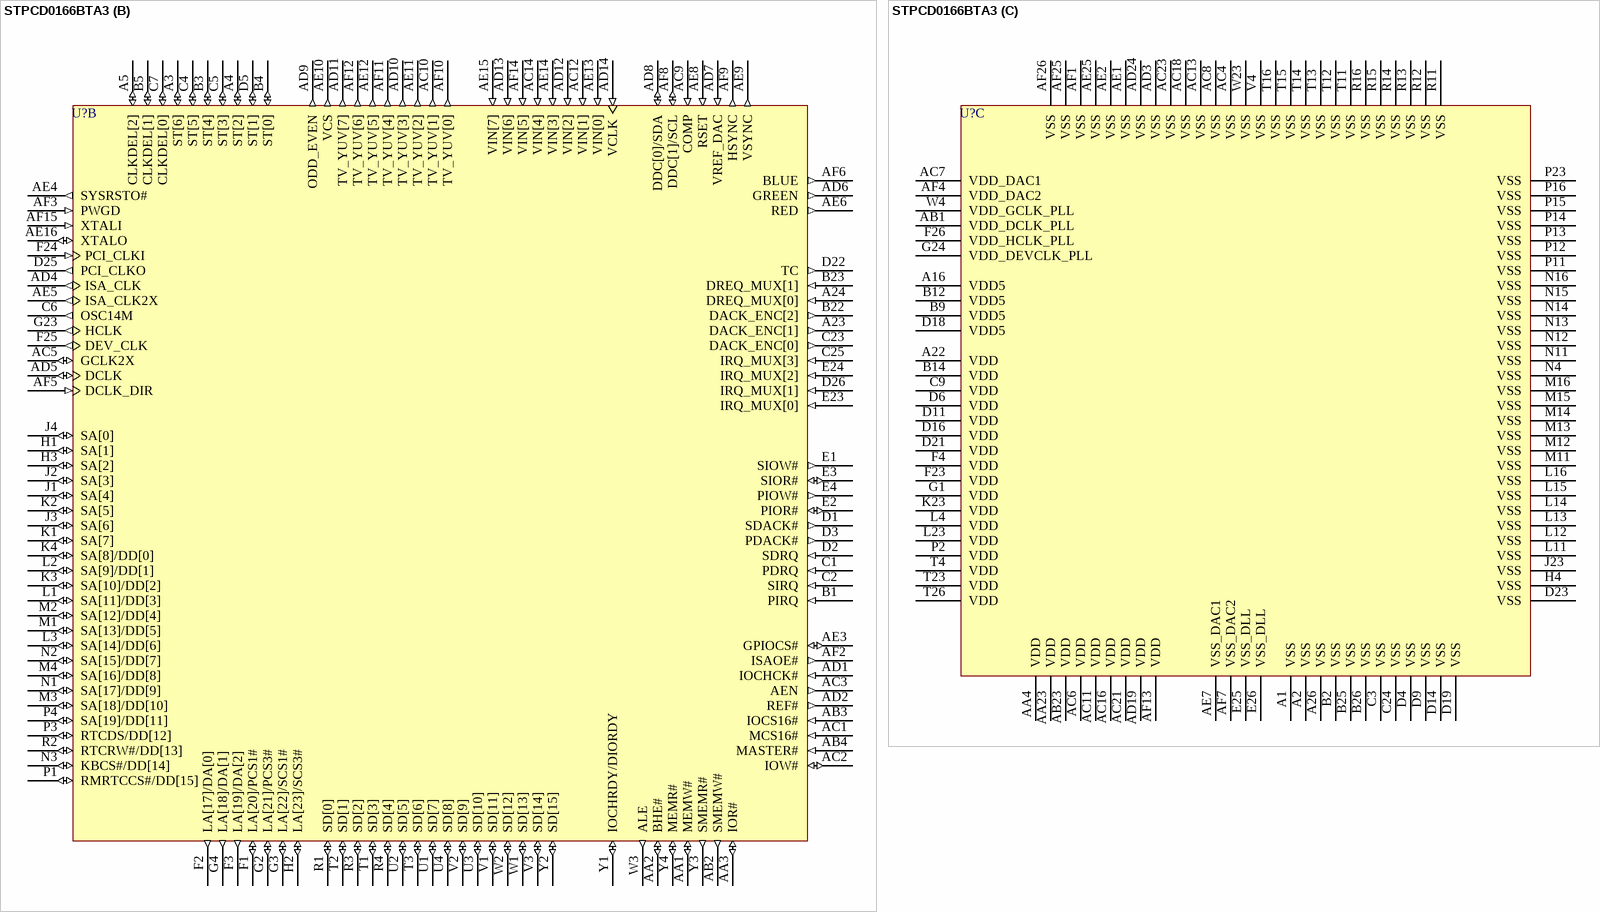
[diagram p29: symbol STPCD0166BTA3]